# Altium schematic symbol library Common.SchLib: 211 symbols (part 1 of 2)
Pins are listed as number, name and electrical type; pins without a type are passive.

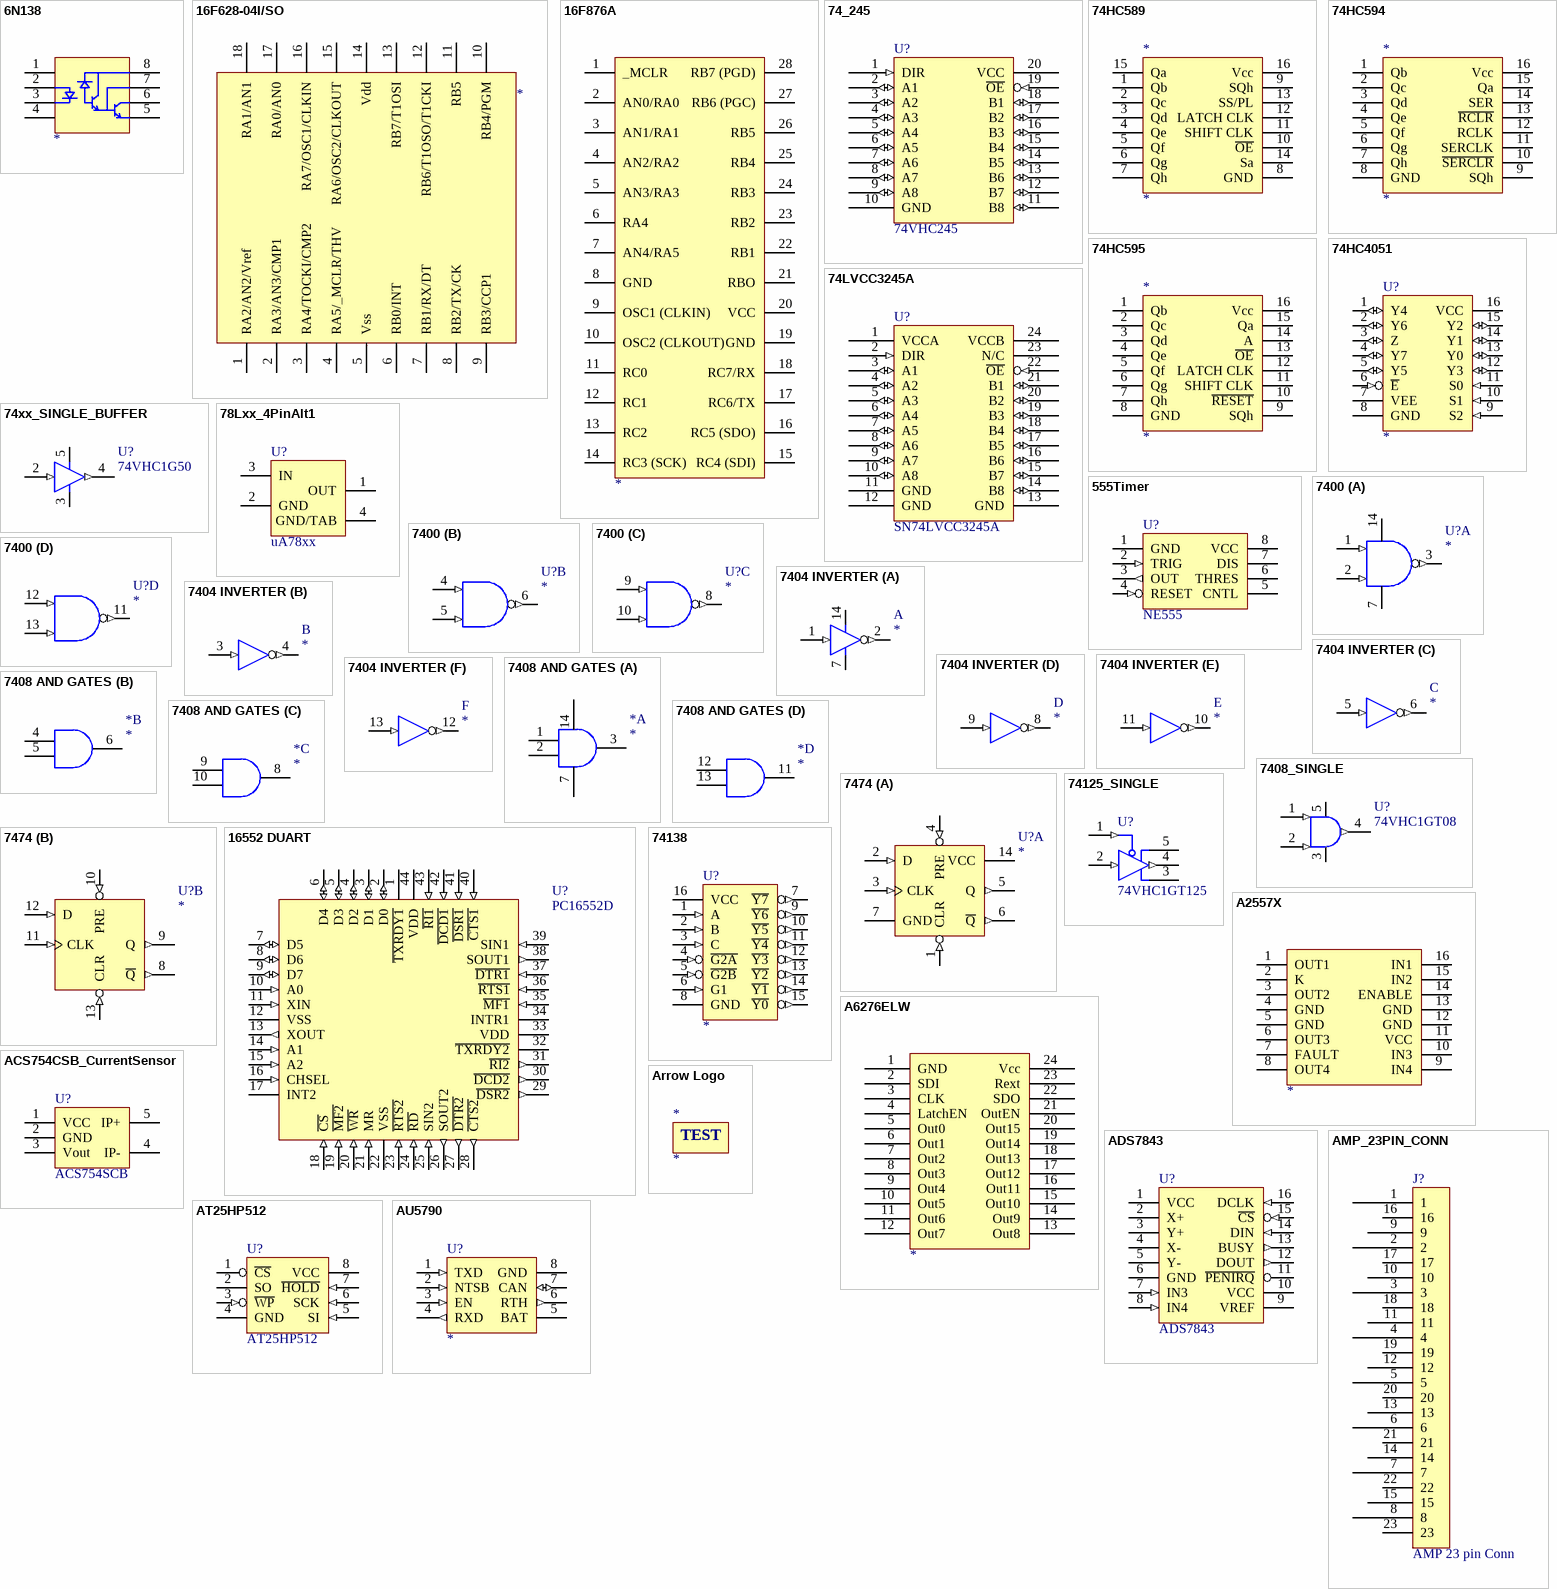
[diagram p0: symbols 6N138 to AU5790]

## 6N138
designator ?
pins: 1, 2, 3, 4, 5, 6, 7, 8

## 16F628-04I/SO
designator ?
pins: 1 RA2/AN2/Vref, 2 RA3/AN3/CMP1, 3 RA4/TOCKI/CMP2, 4 RA5/_MCLR/THV, 5 Vss, 6 RB0/INT, 7 RB1/RX/DT, 8 RB2/TX/CK, 9 RB3/CCP1, 10 RB4/PGM, 11 RB5, 12 RB6/T1OSO/T1CKI, 13 RB7/T1OSI, 14 Vdd, 15 RA6/OSC2/CLKOUT, 16 RA7/OSC1/CLKIN, 17 RA0/AN0, 18 RA1/AN1

## 16F876A
designator ?
pins: 1 _MCLR, 2 AN0/RA0, 3 AN1/RA1, 4 AN2/RA2, 5 AN3/RA3, 6 RA4, 7 AN4/RA5, 8 GND, 9 OSC1 (CLKIN), 10 OSC2 (CLKOUT), 11 RC0, 12 RC1, 13 RC2, 14 RC3 (SCK), 15 RC4 (SDI), 16 RC5 (SDO), 17 RC6/TX, 18 RC7/RX, 19 GND, 20 VCC, 21 RBO, 22 RB1, 23 RB2, 24 RB3, 25 RB4, 26 RB5, 27 RB6 (PGC), 28 RB7 (PGD)

## 74_245
designator U?, comment 74VHC245
Dual Supply Buffer; VALUE: 74VHC245; PARTNO: 74VHC245
footprint SO20 WIDE_030205 (SMT)
pins: 1 DIR (in), 2 A1 (io), 3 A2 (io), 4 A3 (io), 5 A4 (io), 6 A5 (io), 7 A6 (io), 8 A7 (io), 9 A8 (io), 10 GND (power), 11 B8 (io), 12 B7 (io), 13 B6 (io), 14 B5 (io), 15 B4 (io), 16 B3 (io), 17 B2 (io), 18 B1 (io), 19 ~{OE} (in), 20 VCC (power)

## 74HC589
designator *
pins: 1 Qb, 2 Qc, 3 Qd, 4 Qe, 5 Qf, 6 Qg, 7 Qh, 8 GND, 9 SQh, 10 ~{OE}, 11 SHIFT CLK, 12 LATCH CLK, 13 SS/PL, 14 Sa, 15 Qa, 16 Vcc

## 74HC594
designator *
pins: 1 Qb, 2 Qc, 3 Qd, 4 Qe, 5 Qf, 6 Qg, 7 Qh, 8 GND, 9 SQh, 10 ~{SERCLR}, 11 SERCLK, 12 RCLK, 13 ~{RCLR}, 14 SER, 15 Qa, 16 Vcc

## 74HC595
designator *
pins: 1 Qb, 2 Qc, 3 Qd, 4 Qe, 5 Qf, 6 Qg, 7 Qh, 8 GND, 9 SQh, 10 ~{RESET}, 11 SHIFT CLK, 12 LATCH CLK, 13 ~{OE}, 14 A, 15 Qa, 16 Vcc

## 74HC4051
designator U?
PARTNO: CHP-NEW00; VALUE: 74HC4061
footprint Model Name (Footprint not found)
pins: 1 Y4 (io), 2 Y6 (io), 3 Z (io), 4 Y7 (io), 5 Y5 (io), 6 ~{E} (in), 7 VEE (power), 8 GND (power), 9 S2 (in), 10 S1 (in), 11 S0 (in), 12 Y3 (io), 13 Y0 (io), 14 Y1 (io), 15 Y2 (io), 16 VCC (power)

## 74LVCC3245A
designator U?, comment SN74LVCC3245A
Dual Supply Buffer; VALUE: SN74LVCC3245A; PARTNO: SN74LVCC3245A
pins: 1 VCCA (power), 2 DIR (in), 3 A1 (io), 4 A2 (io), 5 A3 (io), 6 A4 (io), 7 A5 (io), 8 A6 (io), 9 A7 (io), 10 A8 (io), 11 GND (power), 12 GND (power), 13 GND (power), 14 B8 (io), 15 B7 (io), 16 B6 (io), 17 B5 (io), 18 B4 (io), 19 B3 (io), 20 B2 (io), 21 B1 (io), 22 ~{OE} (in), 23 N/C, 24 VCCB (power)

## 74xx_SINGLE_BUFFER
designator U?, comment 74VHC1G50
Single non-inverting buffer; PART NO: 74VHC1G50; VALUE: 74VHC1G50
pins: 2 INA (in), 3 GND (power), 4 OUTY (out), 5 VCC (power)

## 78Lxx_4PinAlt1
designator U?, comment uA78xx
PARTNO: uA78Lxx; VALUE: uA78xx; DK: ????
footprint SOT89_010406 (SMT)
pins: 1 OUT (power), 2 GND (power), 3 IN (power), 4 GND/TAB (power)

## 555Timer
designator U?, comment NE555
PARTNO: CHP-????; VALUE: NE555
pins: 1 GND (power), 2 TRIG (in), 3 OUT (out), 4 RESET (in), 5 CNTL, 6 THRES, 7 DIS (oc), 8 VCC (power)

## 7400
designator U?
footprint SO14
part A pins: 1 A (in), 2 B (in), 3 Y (out), 7 GND (power), 14 VCC (power)
part B pins: 4 A (in), 5 B (in), 6 Y (out)
part C pins: 8 Y (out), 9 A (in), 10 B (in)
part D pins: 11 Y (out), 12 A (in), 13 B (in)

## 7404 INVERTER
designator ?
part A pins: 1 IN (in), 2 OUT (out), 7 GND (power), 14 VCC (power)
part B pins: 3 IN (in), 4 OUT (out)
part C pins: 5 IN (in), 6 OUT (out)
part D pins: 8 OUT (out), 9 IN (in)
part E pins: 10 OUT (out), 11 IN (in)
part F pins: 12 OUT (out), 13 IN (in)

## 7408 AND GATES
designator *
part A pins: 1, 2, 3, 7 GND, 14 VCC
part B pins: 4 1, 5 2, 6 3
part C pins: 8 3, 9 1, 10 2
part D pins: 11 3, 12 1, 13 2

## 7408_SINGLE
designator U?, comment value 74VHC1GT08  (hidden comment: Single And Gate)
PART NO: NEW
footprint SOT23-5
pins: 1 INB (in), 2 INA (in), 3 GND (power), 4 OUTY (out), 5 VCC (power)

## 7474
designator U?
74xx74 Flip Flop
footprint SO14
footprint DIP14
part A pins: 1 CLR (in), 2 D (in), 3 CLK (in), 4 PRE (in), 5 Q (out), 6 ~{Q} (out), 7 GND (power), 14 VCC (power)
part B pins: 8 ~{Q} (out), 9 Q (out), 10 PRE (in), 11 CLK (in), 12 D (in), 13 CLR (in)

## 16552 DUART
designator U?, comment PC16552D
PARTNO: CHP-????; VALUE: PC16552D
pins: 1 ~{TXRDY1} (oc), 2 D0 (io), 3 D1 (io), 4 D2 (io), 5 D3 (io), 6 D4 (io), 7 D5 (io), 8 D6 (io), 9 D7 (io), 10 A0 (in), 11 XIN (in), 12 VSS (power), 13 XOUT (out), 14 A1 (in), 15 A2 (in), 16 CHSEL (in), 17 INT2 (oc), 18 ~{CS} (in), 19 ~{MF2} (in), 20 ~{WR} (in), 21 MR (in), 22 VSS (power), 23 ~{RTS2} (in), 24 ~{RD} (in), 25 SIN2 (in), 26 SOUT2 (out), 27 ~{DTR2} (out), 28 ~{CTS2} (out), 29 ~{DSR2} (out), 30 ~{DCD2} (out), 31 ~{RI2} (out), 32 ~{TXRDY2} (oc), 33 VDD (power), 34 INTR1 (oc), 35 ~{MF1} (in), 36 ~{RTS1} (in), 37 ~{DTR1} (in), 38 SOUT1 (out), 39 SIN1 (in), 40 ~{CTS1} (in), 41 ~{DSR1} (in), 42 ~{DCD1} (in), 43 ~{RI1} (in), 44 VDD (power)

## 74125_SINGLE
designator U?, comment 74VHC1GT125
Single Tir-state Buffer; PARTNO: 74VHC1GT125; VALUE: 74VHC1GT125
footprint SOT23-5
pins: 1 INB (in), 2 INA (in), 3 GND (power), 4 OUTY (out), 5 VCC (power)

## 74138
designator U?
footprint TSSOP16
pins: 1 A (in), 2 B (in), 3 C (in), 4 ~{G2A} (in), 5 ~{G2B} (in), 6 G1 (in), 7 ~{Y7} (out), 8 GND (power), 9 ~{Y6} (out), 10 ~{Y5} (out), 11 ~{Y4} (out), 12 ~{Y3} (out), 13 ~{Y2} (out), 14 ~{Y1} (out), 15 ~{Y0} (out), 16 VCC (power)

## A2557X
designator ?
pins: 1 OUT1, 2 K, 3 OUT2, 4 GND, 5 GND, 6 OUT3, 7 FAULT, 8 OUT4, 9 IN4, 10 IN3, 11 VCC, 12 GND, 13 GND, 14 ENABLE, 15 IN2, 16 IN1

## A6276ELW
designator ?
pins: 1 GND, 2 SDI, 3 CLK, 4 LatchEN, 5 Out0, 6 Out1, 7 Out2, 8 Out3, 9 Out4, 10 Out5, 11 Out6, 12 Out7, 13 Out8, 14 Out9, 15 Out10, 16 Out11, 17 Out12, 18 Out13, 19 Out14, 20 Out15, 21 OutEN, 22 SDO, 23 Rext, 24 Vcc

## ACS754CSB_CurrentSensor
designator U?, comment ACS754SCB
Allegro Current Sensor; PARTNO: ACS754SCB-050-PFF; VALUE: ACS754SCB
footprint ACS_CURRENT_SENSOR_051507 (Footprint not found)
pins: 1 VCC (power) "V+", 2 GND (power), 3 Vout "AnalogOutput", 4 IP- "CurrentSenseLow", 5 IP+ "CurrentSenseHigh"

## ADS7843
designator U?
Touch Screen Controller; VALUE: ADS7843; PARNTO: ADS7843
pins: 1 VCC (power), 2 X+, 3 Y+, 4 X-, 5 Y-, 6 GND (power), 7 IN3 (in), 8 IN4 (in), 9 VREF (power), 10 VCC (power), 11 ~{PENIRQ} (oc), 12 DOUT (out), 13 BUSY (out), 14 DIN (in), 15 ~{CS} (in), 16 DCLK (in)

## AMP_23PIN_CONN
designator J?, comment AMP 23 pin Conn
PARTNO: AMP 23 pin Conn; VALUE: AMP 23 pin Conn
pins: 1, 2, 3, 4, 5, 6, 7, 8, 9, 10, 11, 12, 13, 14, 15, 16, 17, 18, 19, 20, 21, 22, 23

## Arrow Logo
designator *
text: TEST

## AT25HP512
designator U?
PARTNO: CHP-????; VALUE: AT25HP512
footprint SO8_012105 (SMT)
pins: 1 ~{CS}, 2 SO (oc), 3 ~{WP} (in), 4 GND (power), 5 SI (in), 6 SCK (in), 7 ~{HOLD} (in), 8 VCC (power)

## AU5790
designator U?
footprint SO8
pins: 1 TXD (in), 2 NTSB (in), 3 EN (in), 4 RXD (out), 5 BAT (oc), 6 RTH (out), 7 CAN (io), 8 GND (power)

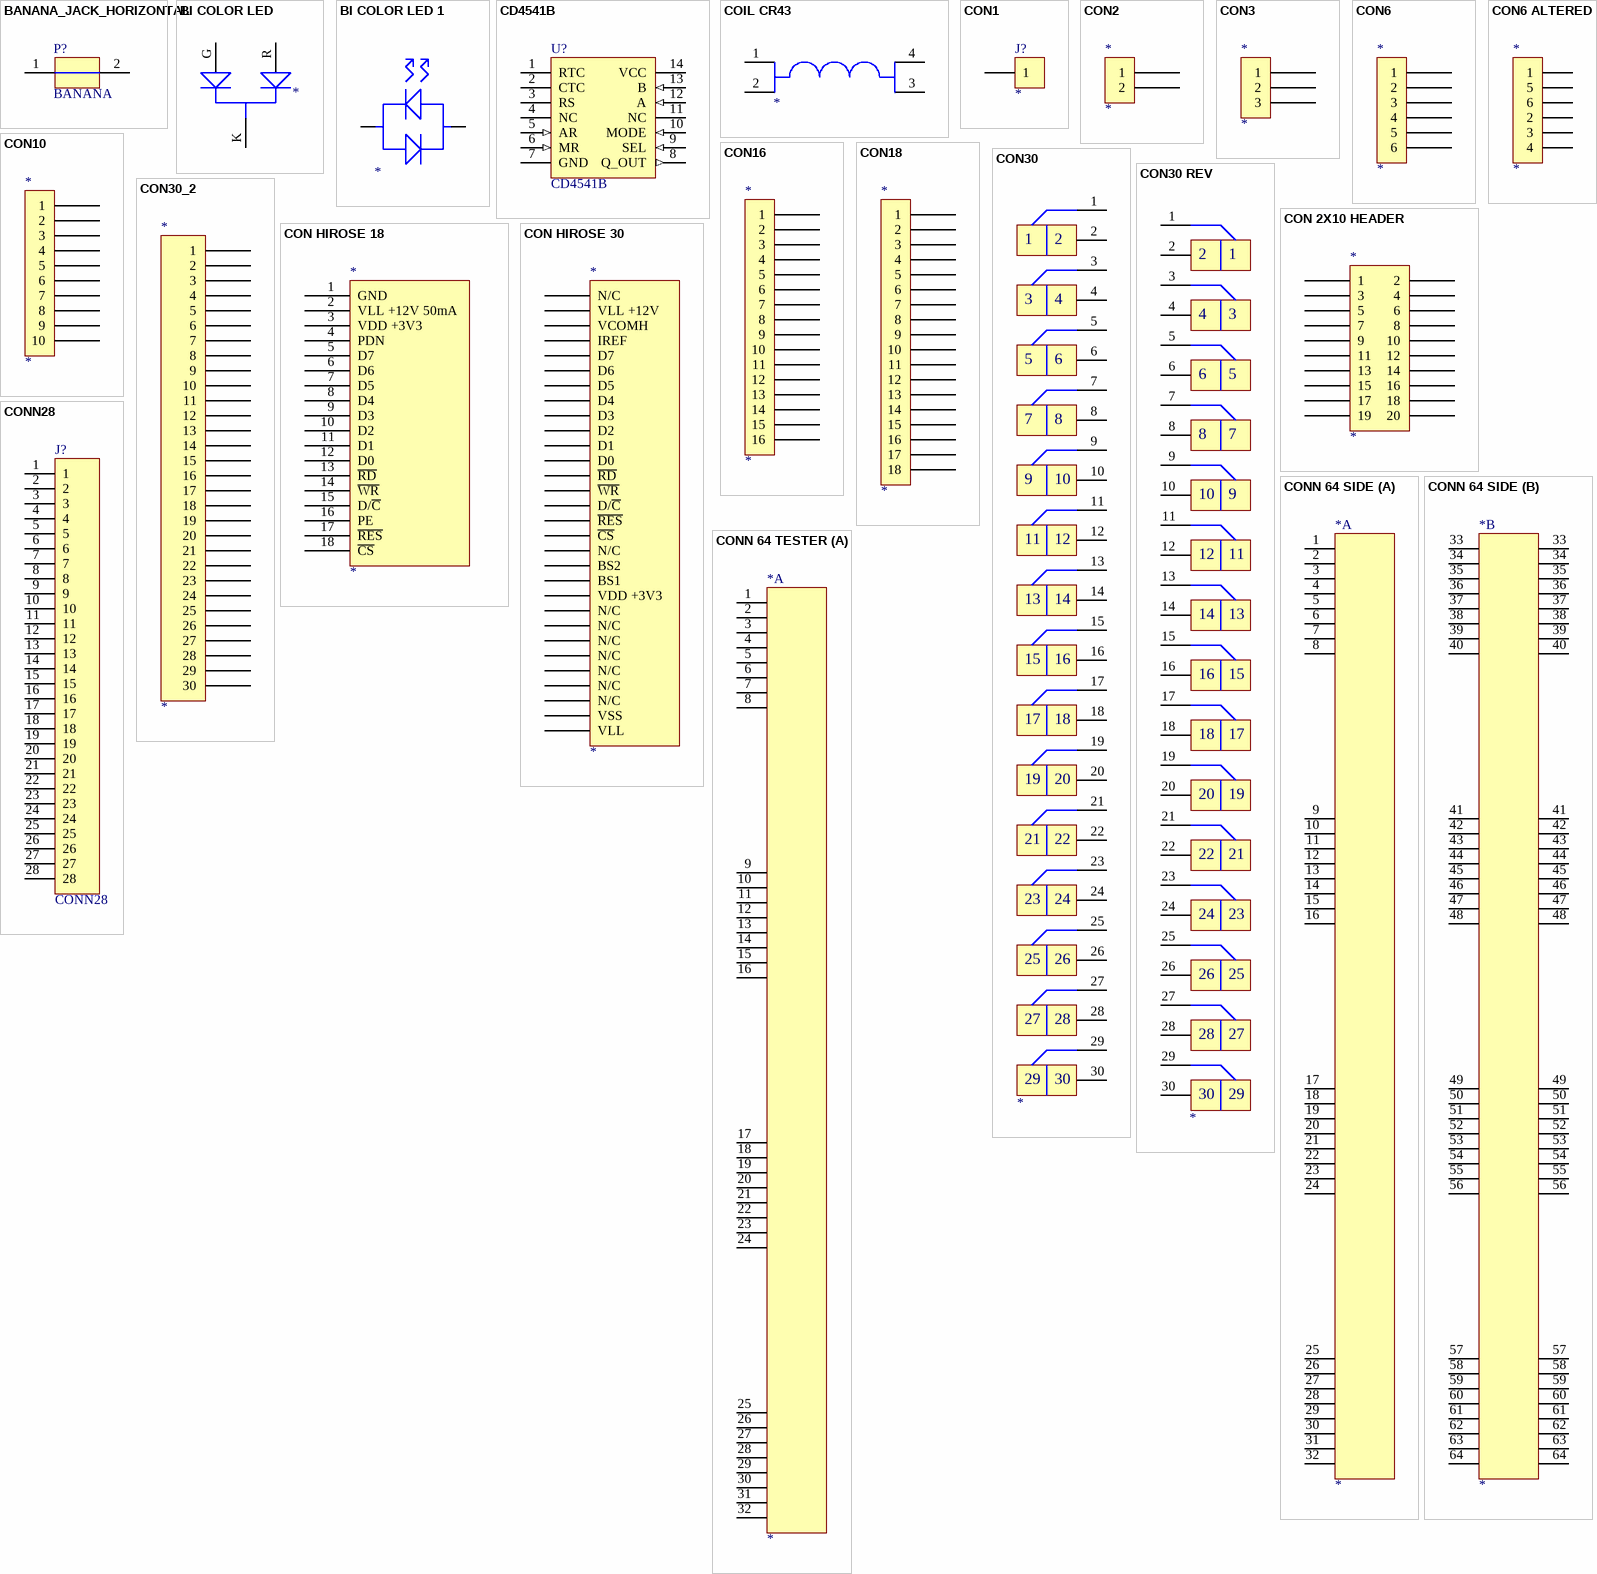
[diagram p1: symbols BANANA_JACK_HORIZONTAL to CONN 64 TESTER]

## BANANA_JACK_HORIZONTAL
designator P?, comment BANANA
PARTNO: Keystone 6061; VALUE: BANANA
footprint BananaHorTestJack (TH)
pins: 1 "PAD1", 2 "PAD2"

## BI COLOR LED
designator ?
pins: G, K, R

## BI COLOR LED 1
designator ?
pins: 1, 2

## CD4541B
designator U?
VALUE: CD4541B; PARTNO: CD4541B
footprint SO14 (Footprint not found)
pins: 1 RTC, 2 CTC, 3 RS, 4 NC, 5 AR (in), 6 MR (in), 7 GND (power), 8 Q_OUT (out), 9 SEL (in), 10 MODE (in), 11 NC, 12 A (in), 13 B (in), 14 VCC (power)

## COIL CR43
designator ?
pins: 1, 2, 3, 4

## CON1
designator J?
Connector
pins: 1

## CON2
designator *
pins: 1, 2

## CON3
designator *
pins: 1, 2, 3

## CON6
designator *
pins: 1, 2, 3, 4, 5, 6

## CON6 ALTERED
designator *
pins: 1, 2, 3, 4, 5, 6

## CON10
designator *
pins: 1, 2, 3, 4, 5, 6, 7, 8, 9, 10

## CON16
designator *
pins: 1, 2, 3, 4, 5, 6, 7, 8, 9, 10, 11, 12, 13, 14, 15, 16

## CON18
designator *
pins: 1, 2, 3, 4, 5, 6, 7, 8, 9, 10, 11, 12, 13, 14, 15, 16, 17, 18

## CON30
designator ?
pins: 1, 2, 3, 4, 5, 6, 7, 8, 9, 10, 11, 12, 13, 14, 15, 16, 17, 18, 19, 20, 21, 22, 23, 24, 25, 26, 27, 28, 29, 30

## CON30 REV
designator ?
pins: 1, 2, 3, 4, 5, 6, 7, 8, 9, 10, 11, 12, 13, 14, 15, 16, 17, 18, 19, 20, 21, 22, 23, 24, 25, 26, 27, 28, 29, 30

## CON30_2
designator *
pins: 1, 2, 3, 4, 5, 6, 7, 8, 9, 10, 11, 12, 13, 14, 15, 16, 17, 18, 19, 20, 21, 22, 23, 24, 25, 26, 27, 28, 29, 30

## CON 2X10 HEADER
designator *
pins: 1, 2, 3, 4, 5, 6, 7, 8, 9, 10, 11, 12, 13, 14, 15, 16, 17, 18, 19, 20

## CON HIROSE 18
designator *
pins: 1 GND, 2 VLL +12V 50mA, 3 VDD +3V3, 4 PDN, 5 D7, 6 D6, 7 D5, 8 D4, 9 D3, 10 D2, 11 D1, 12 D0, 13 ~{RD}, 14 ~{WR}, 15 D/~{C}, 16 PE, 17 ~{RES}, 18 ~{CS}

## CON HIROSE 30
designator *
pins: 1 N/C, 2 VLL +12V, 3 VCOMH, 4 IREF, 5 D7, 6 D6, 7 D5, 8 D4, 9 D3, 10 D2, 11 D1, 12 D0, 13 ~{RD}, 14 ~{WR}, 15 D/~{C}, 16 ~{RES}, 17 ~{CS}, 18 N/C, 19 BS2, 20 BS1, 21 VDD +3V3, 22 N/C, 23 N/C, 24 N/C, 25 N/C, 26 N/C, 27 N/C, 28 N/C, 29 VSS, 30 VLL

## CONN28
designator J?
PARTNO: CONN28; VALUE: CONN28
pins: 1, 2, 3, 4, 5, 6, 7, 8, 9, 10, 11, 12, 13, 14, 15, 16, 17, 18, 19, 20, 21, 22, 23, 24, 25, 26, 27, 28

## CONN 64 SIDE
designator *
part A pins: 1, 2, 3, 4, 5, 6, 7, 8, 9, 10, 11, 12, 13, 14, 15, 16, 17, 18, 19, 20, 21, 22, 23, 24, 25, 26, 27, 28, 29, 30, 31, 32
part B pins: 33, 33, 34, 34, 35, 35, 36, 36, 37, 37, 38, 38, 39, 39, 40, 40, 41, 41, 42, 42, 43, 43, 44, 44, 45, 45, 46, 46, 47, 47, 48, 48, 49, 49, 50, 50, 51, 51, 52, 52, 53, 53, 54, 54, 55, 55, 56, 56, 57, 57, 58, 58, 59, 59, 60, 60, 61, 61, 62, 62, 63, 63, 64, 64

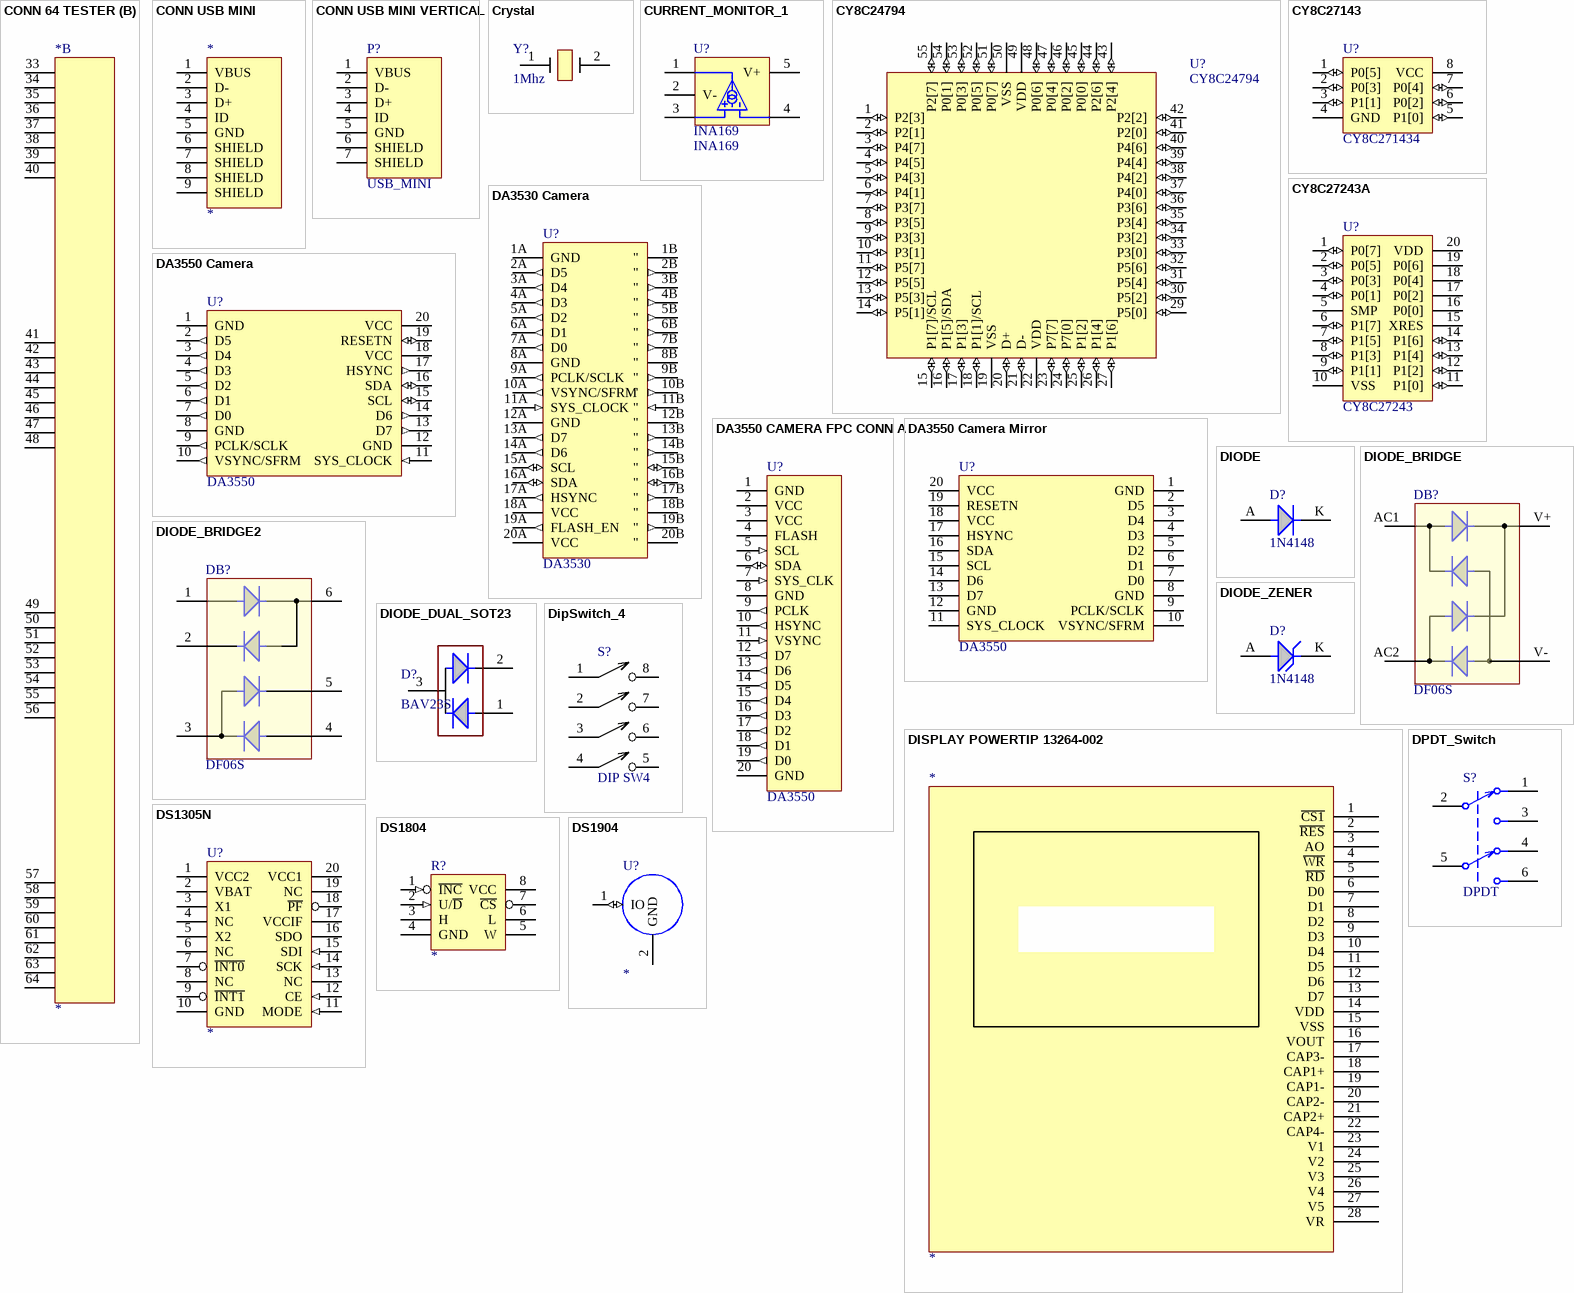
[diagram p2: symbols CONN 64 TESTER to DS1904]

## CONN 64 TESTER
designator *
part A pins: 1, 2, 3, 4, 5, 6, 7, 8, 9, 10, 11, 12, 13, 14, 15, 16, 17, 18, 19, 20, 21, 22, 23, 24, 25, 26, 27, 28, 29, 30, 31, 32
part B pins: 33, 34, 35, 36, 37, 38, 39, 40, 41, 42, 43, 44, 45, 46, 47, 48, 49, 50, 51, 52, 53, 54, 55, 56, 57, 58, 59, 60, 61, 62, 63, 64

## CONN USB MINI
designator *
pins: 1 VBUS, 2 D-, 3 D+, 4 ID, 5 GND, 6 SHIELD, 7 SHIELD, 8 SHIELD, 9 SHIELD

## CONN USB MINI VERTICAL
designator P?, comment USB_MINI
PARTNUM: USB_MINI; VALUE: USB_MINI
footprint USB_VERTICAL_MINI_JACK_102007 (TH)
pins: 1 VBUS, 2 D-, 3 D+, 4 ID, 5 GND, 6 SHIELD, 7 SHIELD

## Crystal
designator Y?, comment 1Mhz
VALUE: 1Mhz; PARTNO: 1Mhz; DK: ????
footprint SMT CRYSTAL_012105 (SMT)
pins: 1 "Port", 2 "Port"

## CURRENT_MONITOR_1
designator U?, comment INA169
PART NO: NEW; VALUE: INA169
footprint SOT23-5
pins: 1, 2 V- (power), 3, 4, 5 V+ (power)

## CY8C24794
designator U?
PARTNO: CHP-????; VALUE: CY8C24794
pins: 1 P2[3] (io), 2 P2[1] (io), 3 P4[7] (io), 4 P4[5] (io), 5 P4[3] (io), 6 P4[1] (io), 7 P3[7] (io), 8 P3[5] (io), 9 P3[3] (io), 10 P3[1] (io), 11 P5[7] (io), 12 P5[5] (io), 13 P5[3] (io), 14 P5[1] (io), 15 P1[7]/SCL (io), 16 P1[5]/SDA (io), 17 P1[3] (io), 18 P1[1]/SCL (io), 19 VSS (power), 20 D+ (io), 21 D- (io), 22 VDD (power), 23 P7[7] (io), 24 P7[0] (io), 25 P1[2] (io), 26 P1[4] (io), 27 P1[6] (io), 29 P5[0] (io), 30 P5[2] (io), 31 P5[4] (io), 32 P5[6] (io), 33 P3[0] (io), 34 P3[2] (io), 35 P3[4] (io), 36 P3[6] (io), 37 P4[0] (io), 38 P4[2] (io), 39 P4[4] (io), 40 P4[6] (io), 41 P2[0] (io), 42 P2[2] (io), 43 P2[4] (io), 44 P2[6] (io), 45 P0[0] (io), 46 P0[2] (io), 47 P0[4] (io), 48 P0[6] (io), 49 VDD (power), 50 VSS (power), 51 P0[7] (io), 52 P0[5] (io), 53 P0[3] (io), 54 P0[1] (io), 55 P2[7] (io)

## CY8C27143
designator U?  value CY8C271434  (hidden comment: CY8C27143)
PART NO: CHP-1176
pins: 1 P0[5] (io), 2 P0[3] (io), 3 P1[1] (io), 4 GND (power), 5 P1[0] (io), 6 P0[2] (io), 7 P0[4] (io), 8 VCC (power)

## CY8C27243A
designator U?, comment CY8C27243
PART NO: CY8C27243; VALUE: CY8C27243
footprint TSSOP20
footprint SO20
pins: 1 P0[7] (io), 2 P0[5] (io), 3 P0[3] (io), 4 P0[1] (io), 5 SMP, 6 P1[7] (io), 7 P1[5] (io), 8 P1[3] (io), 9 P1[1] (io), 10 VSS (power), 11 P1[0] (io), 12 P1[2] (io), 13 P1[4] (io), 14 P1[6] (io), 15 XRES, 16 P0[0], 17 P0[2], 18 P0[4], 19 P0[6], 20 VDD (power)

## DA3530 Camera
designator U?, comment DA3530
VALUE: DA3530; PARTNO: DA3530
pins: 1A GND (power), 1B " (power), 2A D5 (out), 2B " (out), 3A D4 (out), 3B " (out), 4A D3 (out), 4B " (out), 5A D2 (out), 5B " (out), 6A D1 (out), 6B " (out), 7A D0 (out), 7B " (out), 8A GND (power), 8B " (power), 9A PCLK/SCLK (out), 9B " (out), 10A VSYNC/SFRM (out), 10B " (out), 11A SYS_CLOCK (in), 11B " (in), 12A GND (power), 12B " (power), 13A D7 (out), 13B " (out), 14A D6 (out), 14B " (out), 15A SCL (io), 15B " (io), 16A SDA (io), 16B " (io), 17A HSYNC (out), 17B " (out), 18A VCC (power), 18B " (power), 19A FLASH_EN (out), 19B " (out), 20A VCC (power), 20B " (power)

## DA3550 Camera
designator U?, comment DA3550
PARTNO: DA3550; VALUE: DA3550
pins: 1 GND (power), 2 D5 (out), 3 D4 (out), 4 D3 (out), 5 D2 (out), 6 D1 (out), 7 D0 (out), 8 GND (power), 9 PCLK/SCLK (out), 10 VSYNC/SFRM (out), 11 SYS_CLOCK (in), 12 GND (power), 13 D7 (out), 14 D6 (out), 15 SCL (io), 16 SDA (io), 17 HSYNC (out), 18 VCC (power), 19 RESETN (io), 20 VCC (power)

## DA3550 CAMERA FPC CONN A
designator U?, comment DA3550
PARTNO: DA3550; VALUE: DA3550
footprint FPC20_0.5 (Footprint not found)
pins: 1 GND (power), 2 VCC (power), 3 VCC (power), 4 FLASH, 5 SCL (in), 6 SDA (io), 7 SYS_CLK (in), 8 GND (power), 9 PCLK (out), 10 HSYNC (out), 11 VSYNC (in), 12 D7 (out), 13 D6 (out), 14 D5 (out), 15 D4 (out), 16 D3 (out), 17 D2 (out), 18 D1 (out), 19 D0 (out), 20 GND (power)

## DA3550 Camera Mirror
designator U?, comment DA3550
PARTNO: DA3550; VALUE: DA3550
pins: 1 GND (power), 2 D5, 3 D4, 4 D3, 5 D2, 6 D1, 7 D0, 8 GND (power), 9 PCLK/SCLK, 10 VSYNC/SFRM, 11 SYS_CLOCK, 12 GND (power), 13 D7, 14 D6, 15 SCL, 16 SDA, 17 HSYNC, 18 VCC (power), 19 RESETN, 20 VCC (power)

## DIODE
designator D?, comment 1N4148
VALUE: 1N4148; PARTNO: ?
pins: A, K

## DIODE_BRIDGE
designator DB?, comment DF06S
VALUE: DF06S; PARTNO: DF06S
footprint DIODE_BRIDGE_092807 (Footprint not found)
pins: AC1 AC, AC2, V+ +, V- -

## DIODE_BRIDGE2
designator DB?, comment DF06S
VALUE: DF06S; PARTNO: DF06S
footprint DIODE_BRIDGE (Footprint not found)
pins: 1 A1, 2 K1, 3 AC2, 4 A2, 5 K2, 6 AC1

## DIODE_DUAL_SOT23
designator D?, comment BAV23S
MAN: Fairchild; PARTNO: BAV23S; VALUE: BAV23S; DK: BAV23SFSCT-ND
footprint SOT23_012105 (SMT)
pins: 1, 2, 3

## DIODE_ZENER
designator D?, comment 1N4148
VALUE: 1N4148; PARTNO: ?
pins: A, K

## DipSwitch_4
designator S?, comment DIP SW4
PARTNO: DIP SW4; VALUE: DIP SW4
footprint DIP 8_012705 (TH)
pins: 1, 2, 3, 4, 5, 6, 7, 8

## DISPLAY POWERTIP 13264-002
designator *
pins: 1 ~{CS1}, 2 ~{RES}, 3 AO, 4 ~{WR}, 5 ~{RD}, 6 D0, 7 D1, 8 D2, 9 D3, 10 D4, 11 D5, 12 D6, 13 D7, 14 VDD, 15 VSS, 16 VOUT, 17 CAP3-, 18 CAP1+, 19 CAP1-, 20 CAP2-, 21 CAP2+, 22 CAP4-, 23 V1, 24 V2, 25 V3, 26 V4, 27 V5, 28 VR
text: DISPLAY

## DPDT_Switch
designator S?, comment DPDT
PARTNO: M2022; VALUE: DPDT
footprint M2022_DPDT_121306 (Footprint not found)
pins: 1 NC, 2 COMB, 3 NO, 4 NC, 5 COMB, 6 NO

## DS1305N
designator U?
footprint TSSOP20
pins: 1 VCC2 (power), 2 VBAT (power), 3 X1, 4 NC, 5 X2, 6 NC, 7 ~{INT0} (oc), 8 NC, 9 ~{INT1} (oc), 10 GND (power), 11 MODE (in), 12 CE (in), 13 NC, 14 SCK (in), 15 SDI (in), 16 SDO (hiz), 17 VCCIF (power), 18 ~{PF} (oc), 19 NC, 20 VCC1 (power)

## DS1804
designator R?
footprint SO8
pins: 1 ~{INC} (in), 2 U/~{D} (in), 3 H, 4 GND (power), 5 W, 6 L, 7 ~{CS}, 8 VCC (power)

## DS1904
designator U?
footprint IBUTTON
pins: 1 IO (io), 2 GND (power)

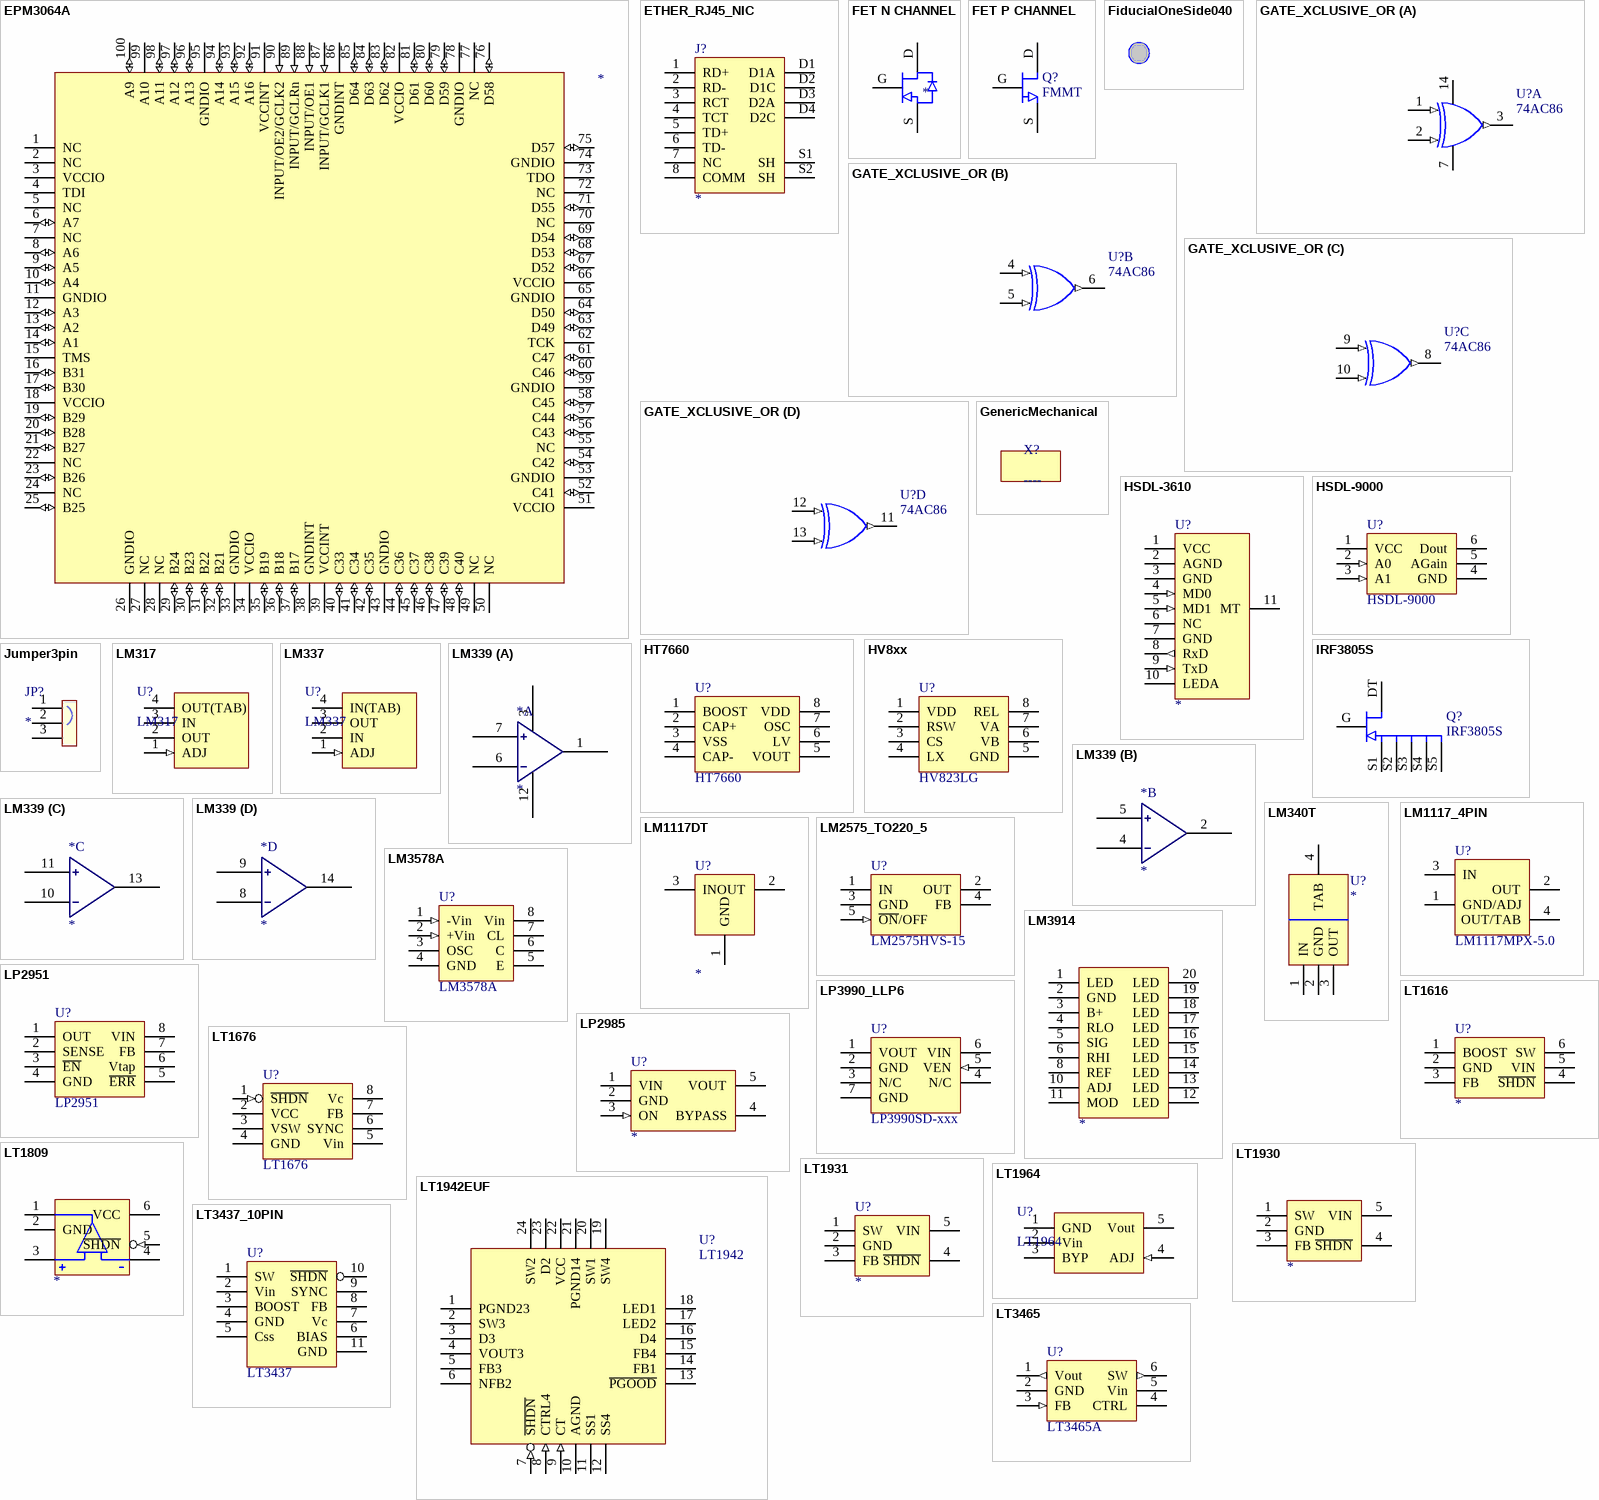
[diagram p3: symbols EPM3064A to LT3465]

## EPM3064A
designator ?
pins: 1 NC, 2 NC, 3 VCCIO (power), 4 TDI, 5 NC, 6 A7 (io), 7 NC, 8 A6 (io), 9 A5 (io), 10 A4 (io), 11 GNDIO (power), 12 A3 (io), 13 A2 (io), 14 A1 (io), 15 TMS, 16 B31 (io), 17 B30 (io), 18 VCCIO (power), 19 B29 (io), 20 B28 (io), 21 B27 (io), 22 NC, 23 B26 (io), 24 NC, 25 B25 (io), 26 GNDIO (power), 27 NC, 28 NC, 29 B24 (io), 30 B23 (io), 31 B22 (io), 32 B21 (io), 33 GNDIO (power), 34 VCCIO (power), 35 B19 (io), 36 B18 (io), 37 B17 (io), 38 GNDINT (power), 39 VCCINT (power), 40 C33 (io), 41 C34 (io), 42 C35 (io), 43 GNDIO (power), 44 C36 (io), 45 C37 (io), 46 C38 (io), 47 C39 (io), 48 C40 (io), 49 NC, 50 NC, 51 VCCIO (power), 52 C41 (io), 53 GNDIO, 54 C42 (io), 55 NC, 56 C43 (io), 57 C44 (io), 58 C45 (io), 59 GNDIO (power), 60 C46 (io), 61 C47 (io), 62 TCK, 63 D49 (io), 64 D50 (io), 65 GNDIO (power), 66 VCCIO (power), 67 D52 (io), 68 D53 (io), 69 D54 (io), 70 NC, 71 D55 (io), 72 NC, 73 TDO, 74 GNDIO (power), 75 D57 (io), 76 D58 (io), 77 NC, 78 GNDIO (power), 79 D59 (io), 80 D60 (io), 81 D61 (io), 82 VCCIO (power), 83 D62 (io), 84 D63 (io), 85 D64 (io), 86 GNDINT (power), 87 INPUT/GCLK1 (in), 88 INPUT/OE1 (in), 89 INPUT/GCLRn (in), 90 INPUT/OE2/GCLK2 (in), 91 VCCINT (power), 92 A16 (io), 93 A15 (io), 94 A14 (io), 95 GNDIO (power), 96 A13 (io), 97 A12 (io), 98 A11 (io), 99 A10, 100 A9 (io)

## ETHER_RJ45_NIC
designator J?
pins: 1 RD+, 2 RD-, 3 RCT, 4 TCT, 5 TD+, 6 TD-, 7 NC, 8 COMM (power), D1 D1A, D2 D1C, D3 D2A, D4 D2C, S1 SH, S2 SH

## FET N CHANNEL
designator ?
pins: D, G, S

## FET P CHANNEL
designator Q?, comment FMMT
PARTNO: FMMT; VALUE: FMMT
pins: D, G, S

## FiducialOneSide040
designator FID?  (value not drawn)
PARTNO: N/A; VALUE: N/A
footprint FiducialOneSide_011905 (FEATURE SMT PCB)
pins: 0

## GATE_XCLUSIVE_OR
designator U?, comment value 74AC86  (hidden comment: XOR)
part A pins: 1 1A (in), 2 1B (in), 3 1Y (out), 7 GND (power), 14 VCC (power)
part B pins: 4 1A (in), 5 1B (in), 6 1Y (out)
part C pins: 8 1Y (out), 9 1A (in), 10 1B (in)
part D pins: 11 1Y (out), 12 1A (in), 13 1B (in)

## GenericMechanical
designator X?, comment ----
proto_vendor_item_number: ----; proto_manufacturer_item_number: ----; proto_vendor: ----; proto_manufacturer: ----; value: ----

## HSDL-3610
designator U?
footprint HSDL_FRONT
pins: 1 VCC (power), 2 AGND (power), 3 GND (power), 4 MD0 (in), 5 MD1 (in), 6 NC, 7 GND (power), 8 RxD (out), 9 TxD (in), 10 LEDA, 11 MT

## HSDL-9000
designator U?
PARTNO: CHP-HSDL-9000; VALUE: HSDL-9000
pins: 1 VCC (power), 2 A0 (in), 3 A1 (in), 4 GND (power), 5 AGain, 6 Dout (hiz)

## HT7660
designator U?
PARTNO: CHP-????; VALUE: HT7660
footprint SO8_012105 (SMT)
pins: 1 BOOST, 2 CAP+, 3 VSS (power), 4 CAP-, 5 VOUT (power), 6 LV, 7 OSC, 8 VDD (power)

## HV8xx
designator U?, comment value HV823LG  (hidden comment: EL Lamp Driver)
PART NO: NEW
footprint SO8
pins: 1 VDD (power), 2 RSW, 3 CS, 4 LX, 5 GND (power), 6 VB, 7 VA, 8 REL

## IRF3805S
designator Q?
Power N channel FET; VALUE: IRF3805S; PARTNO: IRF3805S
pins: DT "Tab Drain", G, S1 "Source pin1", S2 "Source pin2", S3 "Source pin3", S4 "Source pin4", S5 "Source pin5"

## Jumper3pin
designator JP?
VALUE: JUMPER
pins: 1, 2, 3

## LM317
designator U?
PARTNO: LM317MKVURG3; VALUE: LM317; DK: 296-19495-1-ND
footprint TO263 REGULATOR_070808 (Footprint not found)
pins: 1 ADJ (in) "Vadjust", 2 OUT (power) "Vout", 3 IN (power) "Vin", 4 OUT(TAB) (power) "Vout"

## LM337
designator U?
PARTNO: LM337KTPR; VALUE: LM337; DK: 296-17847-1-ND
footprint TO263 REGULATOR_070808 (Footprint not found)
pins: 1 ADJ (in) "Vadjust", 2 IN (power) "Vout", 3 OUT (power) "Vin", 4 IN(TAB) (power) "Vout"

## LM339
designator *
part A pins: 1, 3 VCC, 6, 7, 12 GND
part B pins: 2, 4, 5
part C pins: 10, 11, 13
part D pins: 8, 9, 14

## LM340T
designator U?
footprint TO220
pins: 1 IN (power), 2 GND, 3 OUT, 4 TAB

## LM1117_4PIN
designator U?, comment LM1117MPX-5.0
PARTNO: LM1117MPX-5.0; VALUE: LM1117MPX-5.0
footprint SOT223 REG_011905 (SMT)
pins: 1 GND/ADJ (power), 2 OUT (power), 3 IN (power), 4 OUT/TAB (power)

## LM1117DT
designator U?
footprint TO252
pins: 1 GND (power), 2 OUT (power), 3 IN (power)

## LM2575_TO220_5
designator U?, comment LM2575HVS-15
PARTNO: LM2575HVS-15; VALUE: LM2575HVS-15
footprint TO263-5 (Footprint not found)
pins: 1 IN (power), 2 OUT (power), 3 GND (power), 4 FB (power), 5 ~{ON}/OFF (in)

## LM3578A
designator U?
PARTNO: LM3578A; VALUE: LM3578A
footprint SO8_030205 (SMT)
pins: 1 -Vin (in) "AmpIn-", 2 +Vin (in) "AmpIn+", 3 OSC "Oscillator", 4 GND (power), 5 E "DriveEmitter", 6 C "DriveCollector", 7 CL "CurrentLimit", 8 Vin (power) "InputVoltage"

## LM3914
designator ?
pins: 1 LED, 2 GND, 3 B+, 4 RLO, 5 SIG, 6 RHI, 8 REF, 10 ADJ, 11 MOD, 12 LED, 13 LED, 14 LED, 15 LED, 16 LED, 17 LED, 18 LED, 19 LED, 20 LED

## LP2951
designator U?
LDO Regulator; VALUE: LP2951; PARTNO: *
footprint SO8_030205 (SMT)
pins: 1 OUT (power) "Vout", 2 SENSE "Vsense", 3 ~{EN} "EnableN", 4 GND (power), 5 ~{ERR} (oc) "Error", 6 Vtap (oc) "Vref Tap", 7 FB "Feedback", 8 VIN (power) "Vin"

## LP2985
designator U?
footprint SOT23-5
pins: 1 VIN (power), 2 GND (power), 3 ON (in), 4 BYPASS, 5 VOUT (power)

## LP3990_LLP6
designator U?, comment LP3990SD-xxx
PARTNO: LP3990SD-xxx; VALUE: LP3990SD-xxx
footprint LLP6 (Footprint not found)
pins: 1 VOUT (power), 2 GND (power), 3 N/C, 4 N/C, 5 VEN (in), 6 VIN (power), 7 GND (power)

## LT1616
designator U?
footprint SOT23-6
pins: 1 BOOST (oc), 2 GND (power), 3 FB, 4 ~{SHDN}, 5 VIN (power), 6 SW (oc)

## LT1676
designator U?
PARTNO: LT1676CS8; VALUE: LT1676
footprint SO8_030205 (SMT)
pins: 1 ~{SHDN} (in) "Shut Down", 2 VCC (power) "Vin", 3 VSW (oc) "Switch", 4 GND (power) "Ground", 5 Vin (power) "Input Voltage", 6 SYNC "Sync Input", 7 FB "Feedback", 8 Vc "Control Voltage"

## LT1809
designator ?
pins: 1, 2 GND (power), 3, 4, 5 ~{SHDN} (in), 6 VCC (power)

## LT1930
designator ?
pins: 1 SW (oc), 2 GND (power), 3 FB, 4 ~{SHDN}, 5 VIN (power)

## LT1931
designator U?
footprint SOT23-5
pins: 1 SW (oc), 2 GND (power), 3 FB, 4 ~{SHDN}, 5 VIN (power)

## LT1942EUF
designator U?, comment LT1942
PARTNO: LT1942EUF; VALUE: LT1942
footprint QFN24 (Footprint not found)
pins: 1 PGND23 (power), 2 SW3 (oc), 3 D3, 4 VOUT3 (power), 5 FB3, 6 NFB2, 7 ~{SHDN} (in), 8 CTRL4 (in), 9 CT (in), 10 AGND (power), 11 SS1, 12 SS4, 13 ~{PGOOD} (oc), 14 FB1, 15 FB4, 16 D4, 17 LED2 (oc), 18 LED1 (oc), 19 SW4 (oc), 20 SW1 (oc), 21 PGND14 (power), 22 VCC (power), 23 D2, 24 SW2 (oc)

## LT1964
designator U?
LDO Regulator; PARTNO: LT1964ES5-BYP; VALUE: LT1964; DK: LT1964ES5-BYP#TRMPBFCT-ND
footprint SOT25_030205 (SMT)
pins: 1 GND (power), 2 Vin (power), 3 BYP "Bypass", 4 ADJ (in) "VoltageSet", 5 Vout (power) "Output"

## LT3437_10PIN
designator U?, comment LT3437
PARTNO: LT3437; VALUE: LT3437
footprint DFN10 (Footprint not found)
pins: 1 SW "Switch", 2 Vin (power) "InputVoltage", 3 BOOST "DriveBoost", 4 GND (power) "Ground", 5 Css "StartUpDelay", 6 BIAS "BiasVoltage", 7 Vc "ErrorAmpOut", 8 FB "FeedBack", 9 SYNC "SyncIn", 10 ~{SHDN} "ShutDown", 11 GND (power) "CenterPad"

## LT3465
designator U?, comment LT3465A
Stepup LED driver; PARTNO: CHP-LT3465AES; VALUE: LT3465A
footprint SOT23-6_030205 (SMT)
pins: 1 Vout (out), 2 GND (power), 3 FB (in), 4 CTRL, 5 Vin (power), 6 SW (out)

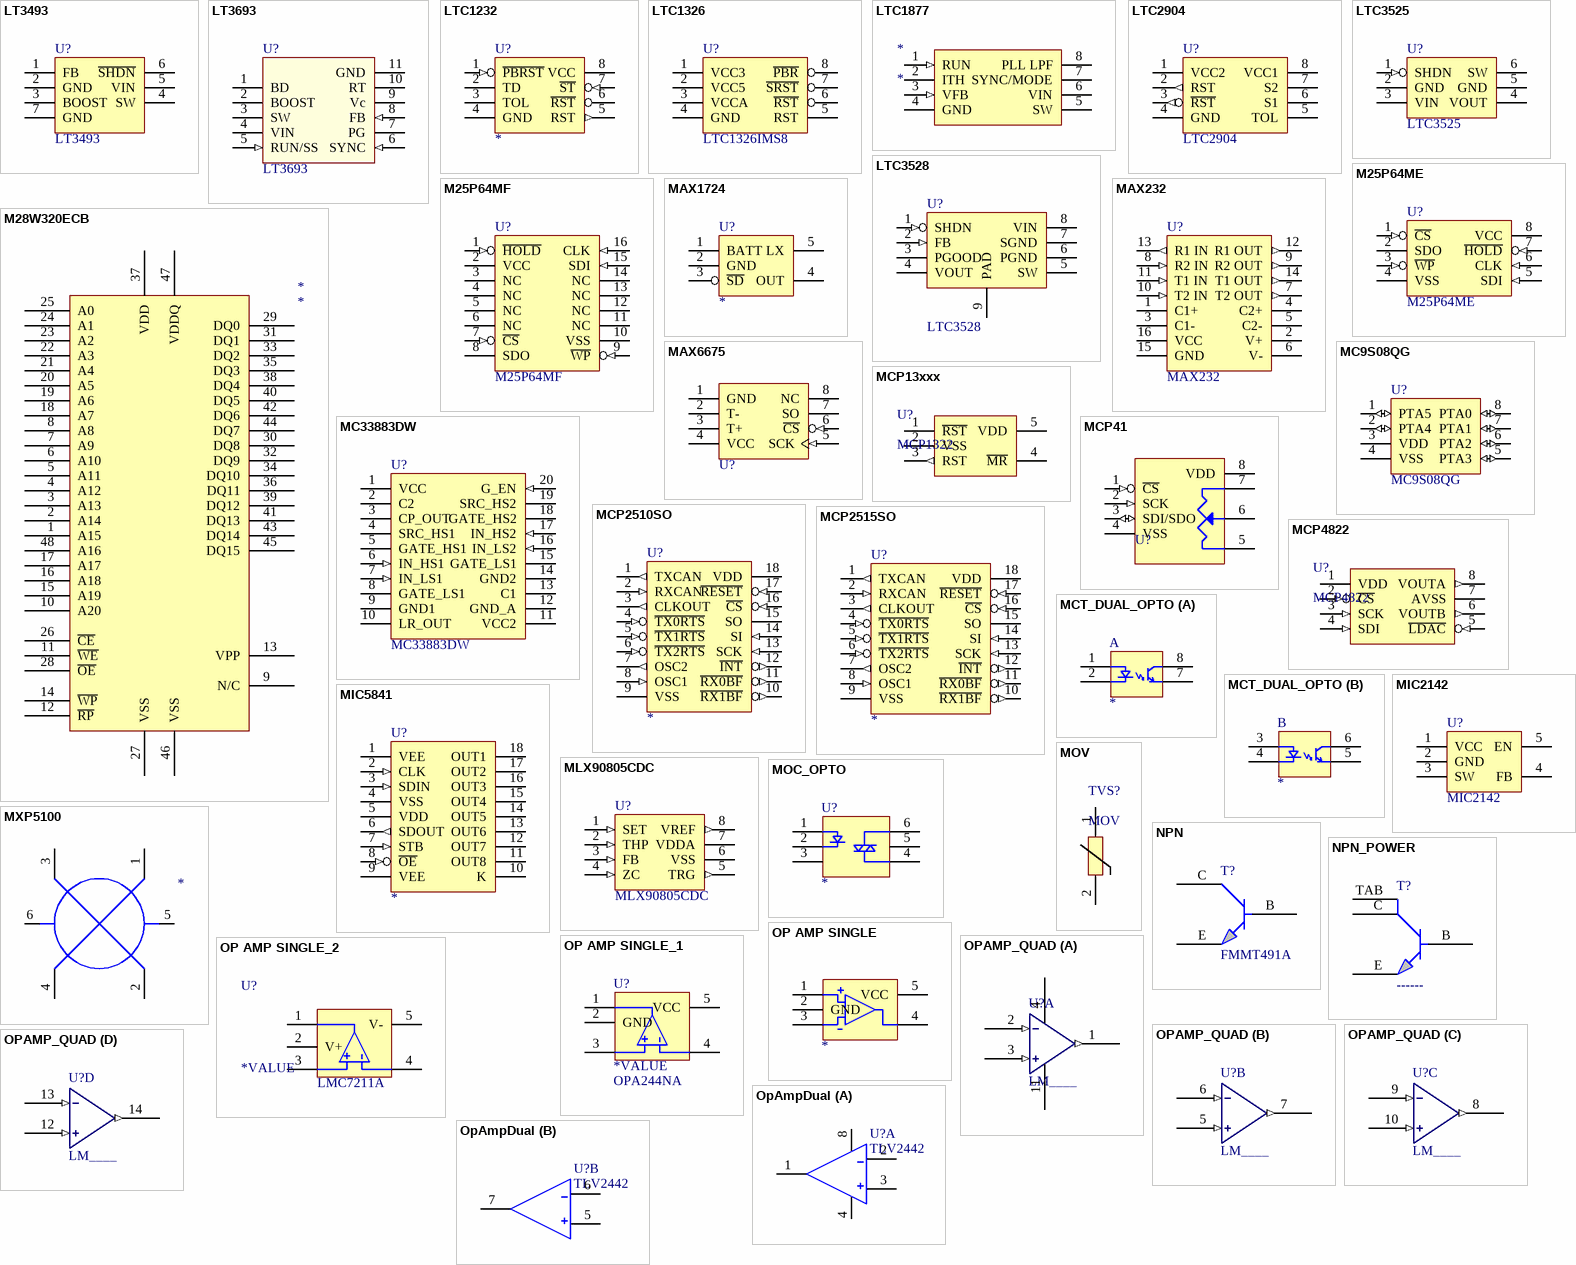
[diagram p4: symbols LT3493 to OpAmpDual]

## LT3493
designator U?
PARTNO: LT3493; VALUE: LT3493
footprint DCB6 (Footprint not found)
pins: 1 FB, 2 GND (power), 3 BOOST, 4 SW (oc), 5 VIN (power), 6 ~{SHDN}, 7 GND (power)

## LT3693
designator U?
PARTNO: LT3693; VALUE: LT3693
footprint DFN10_091607 (SMT)
pins: 1 BD, 2 BOOST, 3 SW, 4 VIN (power), 5 RUN/SS (in), 6 SYNC (in), 7 PG (oc), 8 FB (in), 9 Vc, 10 RT, 11 GND (power)

## LTC1232
designator U?
LTC1232
footprint SO8
pins: 1 ~{PBRST} (in), 2 TD, 3 TOL, 4 GND (power), 5 RST (out), 6 ~{RST} (oc), 7 ~{ST} (in), 8 VCC (power)

## LTC1326
designator U?, comment LTC1326IMS8
PARTNO: LTC1326IMS8; VALUE: LTC1326IMS8
pins: 1 VCC3 (power), 2 VCC5 (power), 3 VCCA (power), 4 GND (power), 5 RST (power), 6 ~{RST} (power), 7 ~{SRST} (power), 8 ~{PBR} (power)

## LTC1877
designator *
pins: 1 RUN (in), 2 ITH, 3 VFB (in), 4 GND (power), 5 SW (oc), 6 VIN (power), 7 SYNC/MODE, 8 PLL LPF

## LTC2904
designator U?
PARTNO: LTC2904; VALUE: LTC2904
footprint SOT23-6_030205 (SMT)
pins: 1 VCC2 (power), 2 RST (out), 3 ~{RST} (out), 4 GND (power), 5 TOL, 6 S1, 7 S2, 8 VCC1 (power)

## LTC3525
designator U?
PARTNO: LTC3525; VALUE: LTC3525
footprint SC70-6_093005 (SMT)
pins: 1 SHDN (in) "Shut Down", 2 GND (power) "Ground", 3 VIN (power) "Power In", 4 VOUT (power) "Power Out", 5 GND (power) "Ground", 6 SW (oc) "Switch Output"

## LTC3528
designator U?
PARTNO: LTC3528; VALUE: LTC3528
pins: 1 SHDN (in) "SHUTDOWN", 2 FB (in) "FEEDBACK", 3 PGOOD (oc) "POWERGOOD", 4 VOUT (power) "POWEROUT", 5 SW (oc) "SWITCH", 6 PGND (power) "POWERGND", 7 SGND (power) "SIGNALGND", 8 VIN (power) "SUPPLY", 9 PAD (power) "POWER PAD"

## M25P64ME
designator U?
PARTNO: M25P64ME; VALUE: M25P64ME
footprint SO8ME (Footprint not found)
pins: 1 ~{CS} (in), 2 SDO (hiz), 3 ~{WP} (in), 4 VSS (power), 5 SDI (in), 6 CLK (in), 7 ~{HOLD} (in), 8 VCC (power)

## M25P64MF
designator U?
PARTNO: M25P64MF; VALUE: M25P64MF
footprint SO16MF (Footprint not found)
pins: 1 ~{HOLD} (in), 2 VCC (power), 3 NC, 4 NC, 5 NC, 6 NC, 7 ~{CS} (in), 8 SDO (hiz), 9 ~{WP} (in), 10 VSS (power), 11 NC (power), 12 NC (power), 13 NC (power), 14 NC (power), 15 SDI (in), 16 CLK (in)

## M28W320ECB
designator *
pins: 1 A15, 2 A14, 3 A13, 4 A12, 5 A11, 6 A10, 7 A9, 8 A8, 9 N/C, 10 A20, 11 ~{WE}, 12 ~{RP}, 13 VPP, 14 ~{WP}, 15 A19, 16 A18, 17 A17, 18 A7, 19 A6, 20 A5, 21 A4, 22 A3, 23 A2, 24 A1, 25 A0, 26 ~{CE}, 27 VSS, 28 ~{OE}, 29 DQ0, 30 DQ8, 31 DQ1, 32 DQ9, 33 DQ2, 34 DQ10, 35 DQ3, 36 DQ11, 37 VDD, 38 DQ4, 39 DQ12, 40 DQ5, 41 DQ13, 42 DQ6, 43 DQ14, 44 DQ7, 45 DQ15, 46 VSS, 47 VDDQ, 48 A16

## MAX232
designator U?
PARTNO: CHP-NEW____; VALUE: MAX232
pins: 1 C1+, 2 V+, 3 C1-, 4 C2+, 5 C2-, 6 V-, 7 T2 OUT (out), 8 R2 IN (in), 9 R2 OUT (out), 10 T2 IN (in), 11 T1 IN (in), 12 R1 OUT (out), 13 R1 IN (out), 14 T1 OUT (out), 15 GND (power), 16 VCC (power)

## MAX1724
designator U?
footprint SOT23-5
pins: 1 BATT (oc), 2 GND (power), 3 ~{SD}, 4 OUT, 5 LX (power)

## MAX6675
designator U?  (value not drawn)
MAX6675
footprint SO8
pins: 1 GND (power), 2 T-, 3 T+, 4 VCC (power), 5 SCK (in), 6 ~{CS} (in), 7 SO (hiz), 8 NC

## MC9S08QG
designator U?
PARTNO: CHP-MC9S08QG; VALUE: MC9S08QG
footprint DIP 8_012705 (TH)
pins: 1 PTA5 (io), 2 PTA4 (io), 3 VDD (power), 4 VSS (power), 5 PTA3 (io), 6 PTA2 (io), 7 PTA1 (io), 8 PTA0 (io)

## MC33883DW
designator U?
PARTNO: MC33883DW; VALUE: MC33883DW
footprint SO20 WIDE_030205 (SMT)
pins: 1 VCC (power) "HighPowerSupply", 2 C2 "Charge Pump Cap", 3 CP_OUT (power) "Charge Pump Output", 4 SRC_HS1 "Highside1 Source", 5 GATE_HS1 "Highside1 Gate", 6 IN_HS1 (in) "Highside1 Input", 7 IN_LS1 (in) "Lowside1 Input", 8 GATE_LS1 "Lowside1 Gate", 9 GND1 (power) "CKT1 GND", 10 LR_OUT (power) "Linear Reg Output", 11 VCC2 (power) "Internal VCC", 12 GND_A (power) "Analog GND", 13 C1 "Charge Pump Cap", 14 GND2 (power) "CKT2 GND", 15 GATE_LS1 "Lowside1 Gate", 16 IN_LS2 (in) "Lowside1 Input", 17 IN_HS2 (in) "Highside2 Input", 18 GATE_HS2 "Highside2 Gate", 19 SRC_HS2 "Highside2 Source", 20 G_EN (in) "Enable"

## MCP13xxx
designator U?, comment MCP1322
PARTNO: MCP1322T-29LE/OT; PARTNO_ALT1: MIC2775-29YMS; MAN: Microchip; Micrel: MAN_ALT1; DK: MCP1322T-29LE/OTCT-ND; VALUE: MCP1322
footprint SOT25_030205 (SMT)
pins: 1 ~{RST} (oc) "RSTn out active low", 2 VSS (power) "GND", 3 RST (out) "RST out active high", 4 ~{MR} "Manual Reset", 5 VDD (power) "Power supply"

## MCP41
designator U?, comment MCP4152-502  (value not drawn)
Programmable POT; PARTNO: MCP4152-502E/SN; MAN: Microchip; DK: MCP4152-502E/SN-ND; VALUE: MCP4152-502
footprint SO8_030205 (SMT)
pins: 1 ~{CS} (in), 2 SCK (in), 3 SDI/SDO (io), 4 VSS (power), 5 P0A, 6 P0W, 7 P0B (hiz), 8 VDD (power)

## MCP2510SO
designator U?
footprint SO18
pins: 1 TXCAN (out), 2 RXCAN (in), 3 CLKOUT (out), 4 ~{TX0RTS} (in), 5 ~{TX1RTS} (in), 6 ~{TX2RTS} (in), 7 OSC2 (out), 8 OSC1 (in), 9 VSS (power), 10 ~{RX1BF} (out), 11 ~{RX0BF} (out), 12 ~{INT} (out), 13 SCK (in), 14 SI (in), 15 SO (oc), 16 ~{CS} (in), 17 ~{RESET} (in), 18 VDD (power)

## MCP2515SO
designator U?
MCP2515SO
footprint SO18
pins: 1 TXCAN (out), 2 RXCAN (in), 3 CLKOUT (out), 4 ~{TX0RTS} (in), 5 ~{TX1RTS} (in), 6 ~{TX2RTS} (in), 7 OSC2 (out), 8 OSC1 (in), 9 VSS (power), 10 ~{RX1BF} (out), 11 ~{RX0BF} (out), 12 ~{INT} (out), 13 SCK (in), 14 SI (in), 15 SO (oc), 16 ~{CS} (in), 17 ~{RESET} (in), 18 VDD (power)

## MCP4822
designator U?
Dual DAC; PARTNO: MCP4822-E/SN; MAN: Microchip; VALUE: MCP4822; DK: MCP4822-E/SN-ND
footprint SO8_030205 (SMT)
pins: 1 VDD (power), 2 ~{CS} (in), 3 SCK (in), 4 SDI (in), 5 ~{LDAC} (in), 6 VOUTB (out), 7 AVSS (power), 8 VOUTA (out)

## MCT_DUAL_OPTO
designator ?
part A pins: 1, 2, 7, 8
part B pins: 3, 4, 5, 6

## MIC2142
designator U?
SMT; PARTNO: MIC2142BM5; VALUE: MIC2142
footprint SOT23-5
pins: 1 VCC (power), 2 GND (power), 3 SW (oc), 4 FB, 5 EN

## MIC5841
designator U?
footprint SO18W
pins: 1 VEE (power), 2 CLK (in), 3 SDIN (in), 4 VSS (power), 5 VDD (power), 6 SDOUT (out), 7 STB (in), 8 ~{OE} (in), 9 VEE (power), 10 K, 11 OUT8 (oc), 12 OUT7 (oc), 13 OUT6 (oc), 14 OUT5 (oc), 15 OUT4 (oc), 16 OUT3 (oc), 17 OUT2 (oc), 18 OUT1 (oc)

## MLX90805CDC
designator U?
PARTNO: MLX90805CDC; VALUE: MLX90805CDC
footprint SO8 (Footprint not found)
pins: 1 SET (in), 2 THP (in), 3 FB (in), 4 ZC (in), 5 TRG (out), 6 VSS (power), 7 VDDA (power), 8 VREF (out)

## MOC_OPTO
designator U?
VALUE: MOC3023; PARTNO: MOC3023
footprint SODIP6 (Footprint not found)
pins: 1, 2, 3, 4, 5, 6

## MOV
designator TVS?
PARTNO: ????; VALUE: MOV; MAN: ????; DK: ????
footprint CAP_20mmx7.3mm_CERAMIC_DISC_012109 (TH)
pins: 1, 2

## MXP5100
designator ?
pins: 1, 2, 3, 4, 5, 6

## NPN
designator T?  value FMMT491A  (hidden comment: NPN)
pins: B, C, E

## NPN_POWER
designator T?, comment value ------  (hidden comment: NPN)
pins: B, C, E, TAB

## OP AMP SINGLE
designator ?
pins: 1, 2 GND (power), 3, 4, 5 VCC (power)

## OP AMP SINGLE_1
designator U?, comment *VALUE  value OPA244NA
PART NO: NEW
footprint SOT23-5
pins: 1, 2 GND (power), 3, 4, 5 VCC (power)

## OP AMP SINGLE_2
designator U?, comment *VALUE  value LMC7211A
PART NO: NEW
footprint SOT25_030205 (SMT)
pins: 1, 2 V+ (power), 3, 4, 5 V- (power)

## OPAMP_QUAD
designator U?, comment LM____
PARTNO: LM____; VALUE: LM____
footprint SO14_012105 (SMT)
part A pins: 1 OA (out), 2 -A (in), 3 +A (in), 4 VCC (power), 11 GND (power)
part B pins: 5 +B (in), 6 -B (in), 7 OB (out)
part C pins: 8 OC (out), 9 -C (in), 10 +C (in)
part D pins: 12 +D (in), 13 -D (in), 14 OD (out)

## OpAmpDual
designator U?, comment TLV2442
MAN: TI; VALUE: TLV2442; PARTNO: TLV2442; DK: ????
footprint SO8_030205 (SMT)
part A pins: 1 OUT1, 2 IN1-, 3 IN1+, 4 GND (power), 8 V+ (power)
part B pins: 5 IN2+, 6 IN2-, 7 OUT2

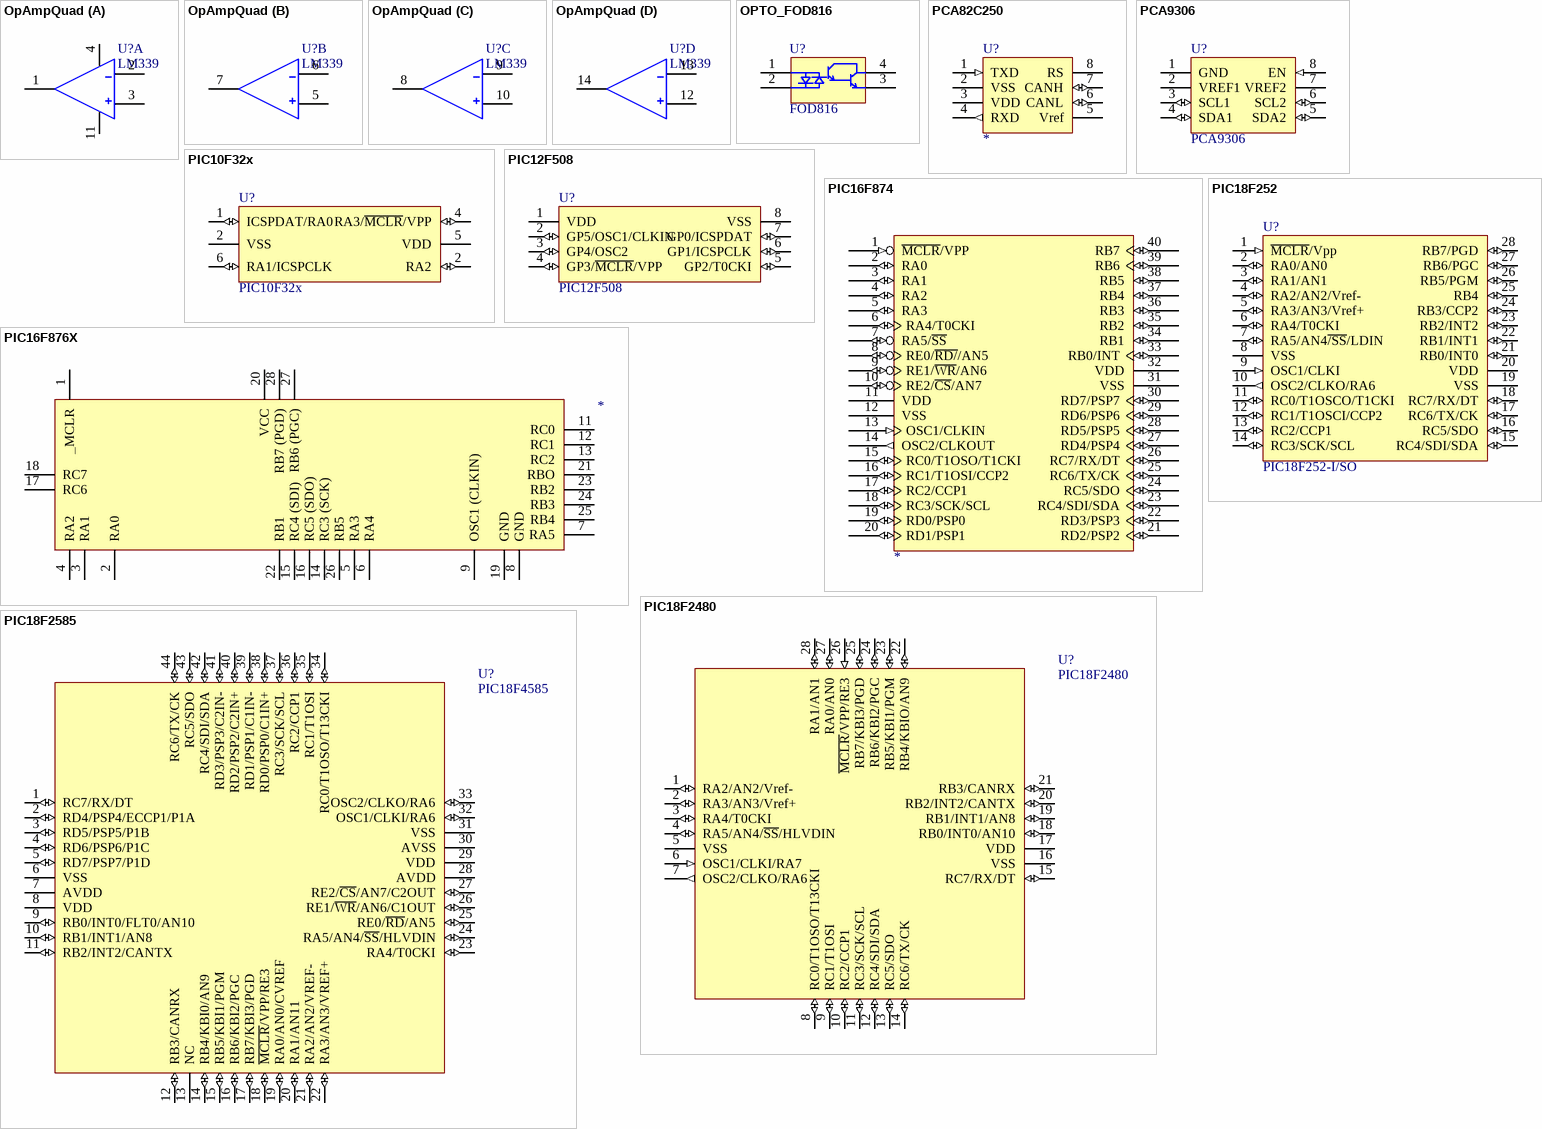
[diagram p5: symbols OpAmpQuad to PIC18F2585]

## OpAmpQuad
designator U?, comment LM339
PARTNO: CHP-; MAN: ????; VALUE: LM339; DK: ????
footprint SO14_012105 (SMT)
part A pins: 1 OUT1, 2 IN1-, 3 IN1+, 4 V+ (power), 11 GND (power)
part B pins: 5 IN2+, 6 IN2-, 7 OUT2
part C pins: 8 OUT3, 9 IN3-, 10 IN3+
part D pins: 12 IN4+, 13 IN4-, 14 OUT4

## OPTO_FOD816
designator U?, comment FOD816
PARTNO: FOD816; VALUE: FOD816
footprint 4PIN_SMT_DIP_033008 (SMT)
pins: 1, 2, 3, 4

## PCA82C250
designator U?
footprint SO8
pins: 1 TXD (in), 2 VSS (power), 3 VDD (power), 4 RXD (out), 5 Vref (oc), 6 CANL (io), 7 CANH (io), 8 RS

## PCA9306
designator U?
I2C Level Translator; PARTNO: PCA9306; VALUE: PCA9306
pins: 1 GND (power), 2 VREF1 (power), 3 SCL1 (io), 4 SDA1 (io), 5 SDA2 (io), 6 SCL2 (io), 7 VREF2 (power), 8 EN (in)

## PIC10F32x
designator U?
PARTNO: PIC10F32x; VALUE: PIC10F32x
footprint SOT23-6_030205 (SMT)
pins: 1 ICSPDAT/RA0 (io), 2 RA2 (io), 2 VSS (power), 4 RA3/~{MCLR}/VPP (io), 5 VDD (power), 6 RA1/ICSPCLK (io)

## PIC12F508
designator U?
PARTNO: CHP-PIC12F508; VALUE: PIC12F508
footprint SO8_030205 (SMT)
pins: 1 VDD (power), 2 GP5/OSC1/CLKIN (io), 3 GP4/OSC2 (io), 4 GP3/~{MCLR}/VPP (io), 5 GP2/T0CKI (io), 6 GP1/ICSPCLK (io), 7 GP0/ICSPDAT (io), 8 VSS (power)

## PIC16F874
designator ?
pins: 1 ~{MCLR}/VPP (in), 2 RA0 (io), 3 RA1 (io), 4 RA2 (io), 5 RA3 (io), 6 RA4/T0CKI (io), 7 RA5/~{SS} (io), 8 RE0/~{RD/}/AN5 (io), 9 RE1/~{WR}/AN6 (io), 10 RE2/~{CS}/AN7 (io), 11 VDD, 12 VSS, 13 OSC1/CLKIN (in), 14 OSC2/CLKOUT (out), 15 RC0/T1OSO/T1CKI (io), 16 RC1/T1OSI/CCP2 (io), 17 RC2/CCP1 (io), 18 RC3/SCK/SCL (io), 19 RD0/PSP0 (io), 20 RD1/PSP1 (io), 21 RD2/PSP2 (io), 22 RD3/PSP3 (io), 23 RC4/SDI/SDA (io), 24 RC5/SDO (io), 25 RC6/TX/CK (io), 26 RC7/RX/DT (io), 27 RD4/PSP4 (io), 28 RD5/PSP5 (io), 29 RD6/PSP6 (io), 30 RD7/PSP7 (io), 31 VSS, 32 VDD, 33 RB0/INT (io), 34 RB1 (io), 35 RB2 (io), 36 RB3 (io), 37 RB4 (io), 38 RB5 (io), 39 RB6 (io), 40 RB7 (io)

## PIC16F876X
designator ?
pins: 1 _MCLR, 2 RA0, 3 RA1, 4 RA2, 5 RA3, 6 RA4, 7 RA5, 8 GND, 9 OSC1 (CLKIN), 11 RC0, 12 RC1, 13 RC2, 14 RC3 (SCK), 15 RC4 (SDI), 16 RC5 (SDO), 17 RC6, 18 RC7, 19 GND, 20 VCC, 21 RBO, 22 RB1, 23 RB2, 24 RB3, 25 RB4, 26 RB5, 27 RB6 (PGC), 28 RB7 (PGD)

## PIC18F252
designator U?, comment PIC18F252-I/SO
PARTNO: CHP-****; VALUE: PIC18F252-I/SO
footprint SO28
pins: 1 ~{MCLR}/Vpp (in), 2 RA0/AN0 (io), 3 RA1/AN1 (io), 4 RA2/AN2/Vref- (io), 5 RA3/AN3/Vref+ (io), 6 RA4/T0CKI (io), 7 RA5/AN4~{/SS}/LDIN (io), 8 VSS (power), 9 OSC1/CLKI (in), 10 OSC2/CLKO/RA6 (out), 11 RC0/T1OSCO/T1CKI (io), 12 RC1/T1OSCI/CCP2 (io), 13 RC2/CCP1 (io), 14 RC3/SCK/SCL (io), 15 RC4/SDI/SDA (io), 16 RC5/SDO (io), 17 RC6/TX/CK (io), 18 RC7/RX/DT (io), 19 VSS (power), 20 VDD (power), 21 RB0/INT0 (io), 22 RB1/INT1 (io), 23 RB2/INT2 (io), 24 RB3/CCP2 (io), 25 RB4 (io), 26 RB5/PGM (io), 27 RB6/PGC (io), 28 RB7/PGD (io)

## PIC18F2480
designator U?
PARTNO: PIC18F1480; VALUE: PIC18F2480
footprint QFN28 (Footprint not found)
pins: 1 RA2/AN2/Vref- (io), 2 RA3/AN3/Vref+ (io), 3 RA4/T0CKI (io), 4 RA5/AN4/~{SS}/HLVDIN (io), 5 VSS (power), 6 OSC1/CLKI/RA7 (in), 7 OSC2/CLKO/RA6 (out), 8 RC0/T1OSO/T13CKI (io), 9 RC1/T1OSI (io), 10 RC2/CCP1 (io), 11 RC3/SCK/SCL (io), 12 RC4/SDI/SDA (io), 13 RC5/SDO (io), 14 RC6/TX/CK (io), 15 RC7/RX/DT (io), 16 VSS (power), 17 VDD (power), 18 RB0/INT0/AN10 (io), 19 RB1/INT1/AN8 (io), 20 RB2/INT2/CANTX (io), 21 RB3/CANRX (io), 22 RB4/KBIO/AN9 (io), 23 RB5/KBI1/PGM (io), 24 RB6/KBI2/PGC (io), 25 RB7/KBI3/PGD (io), 26 ~{MCLR}/VPP/RE3 (in), 27 RA0/AN0 (io), 28 RA1/AN1 (io)

## PIC18F2585
designator U?, comment PIC18F4585
VALUE: PIC18F4585; PARTNO: PIC18F4585
footprint QFN44 (Footprint not found)
pins: 1 RC7/RX/DT (io), 2 RD4/PSP4/ECCP1/P1A (io), 3 RD5/PSP5/P1B (io), 4 RD6/PSP6/P1C (io), 5 RD7/PSP7/P1D (io), 6 VSS (power), 7 AVDD (power), 8 VDD (power), 9 RB0/INT0/FLT0/AN10 (io), 10 RB1/INT1/AN8 (io), 11 RB2/INT2/CANTX (io), 12 RB3/CANRX (io), 13 NC, 14 RB4/KBI0/AN9 (io), 15 RB5/KBI1/PGM (io), 16 RB6/KBI2/PGC (io), 17 RB7/KBI3/PGD (io), 18 ~{MCLR}/VPP/RE3 (io), 19 RA0/AN0/CVREF (io), 20 RA1/AN11 (io), 21 RA2/AN2/VREF- (io), 22 RA3/AN3/VREF+ (io), 23 RA4/T0CKI (io), 24 RA5/AN4/~{SS}/HLVDIN (io), 25 RE0/~{RD}/AN5 (io), 26 RE1/~{WR}/AN6/C1OUT (io), 27 RE2/~{CS}/AN7/C2OUT (io), 28 AVDD (power), 29 VDD (power), 30 AVSS (power), 31 VSS (power), 32 OSC1/CLKI/RA6 (io), 33 OSC2/CLKO/RA6 (io), 34 RC0/T1OSO/T13CKI (io), 35 RC1/T1OSI (io), 36 RC2/CCP1 (io), 37 RC3/SCK/SCL (io), 38 RD0/PSP0/C1IN+ (io), 39 RD1/PSP1/C1IN- (io), 40 RD2/PSP2/C2IN+ (io), 41 RD3/PSP3/C2IN- (io), 42 RC4/SDI/SDA (io), 43 RC5/SDO (io), 44 RC6/TX/CK (io)

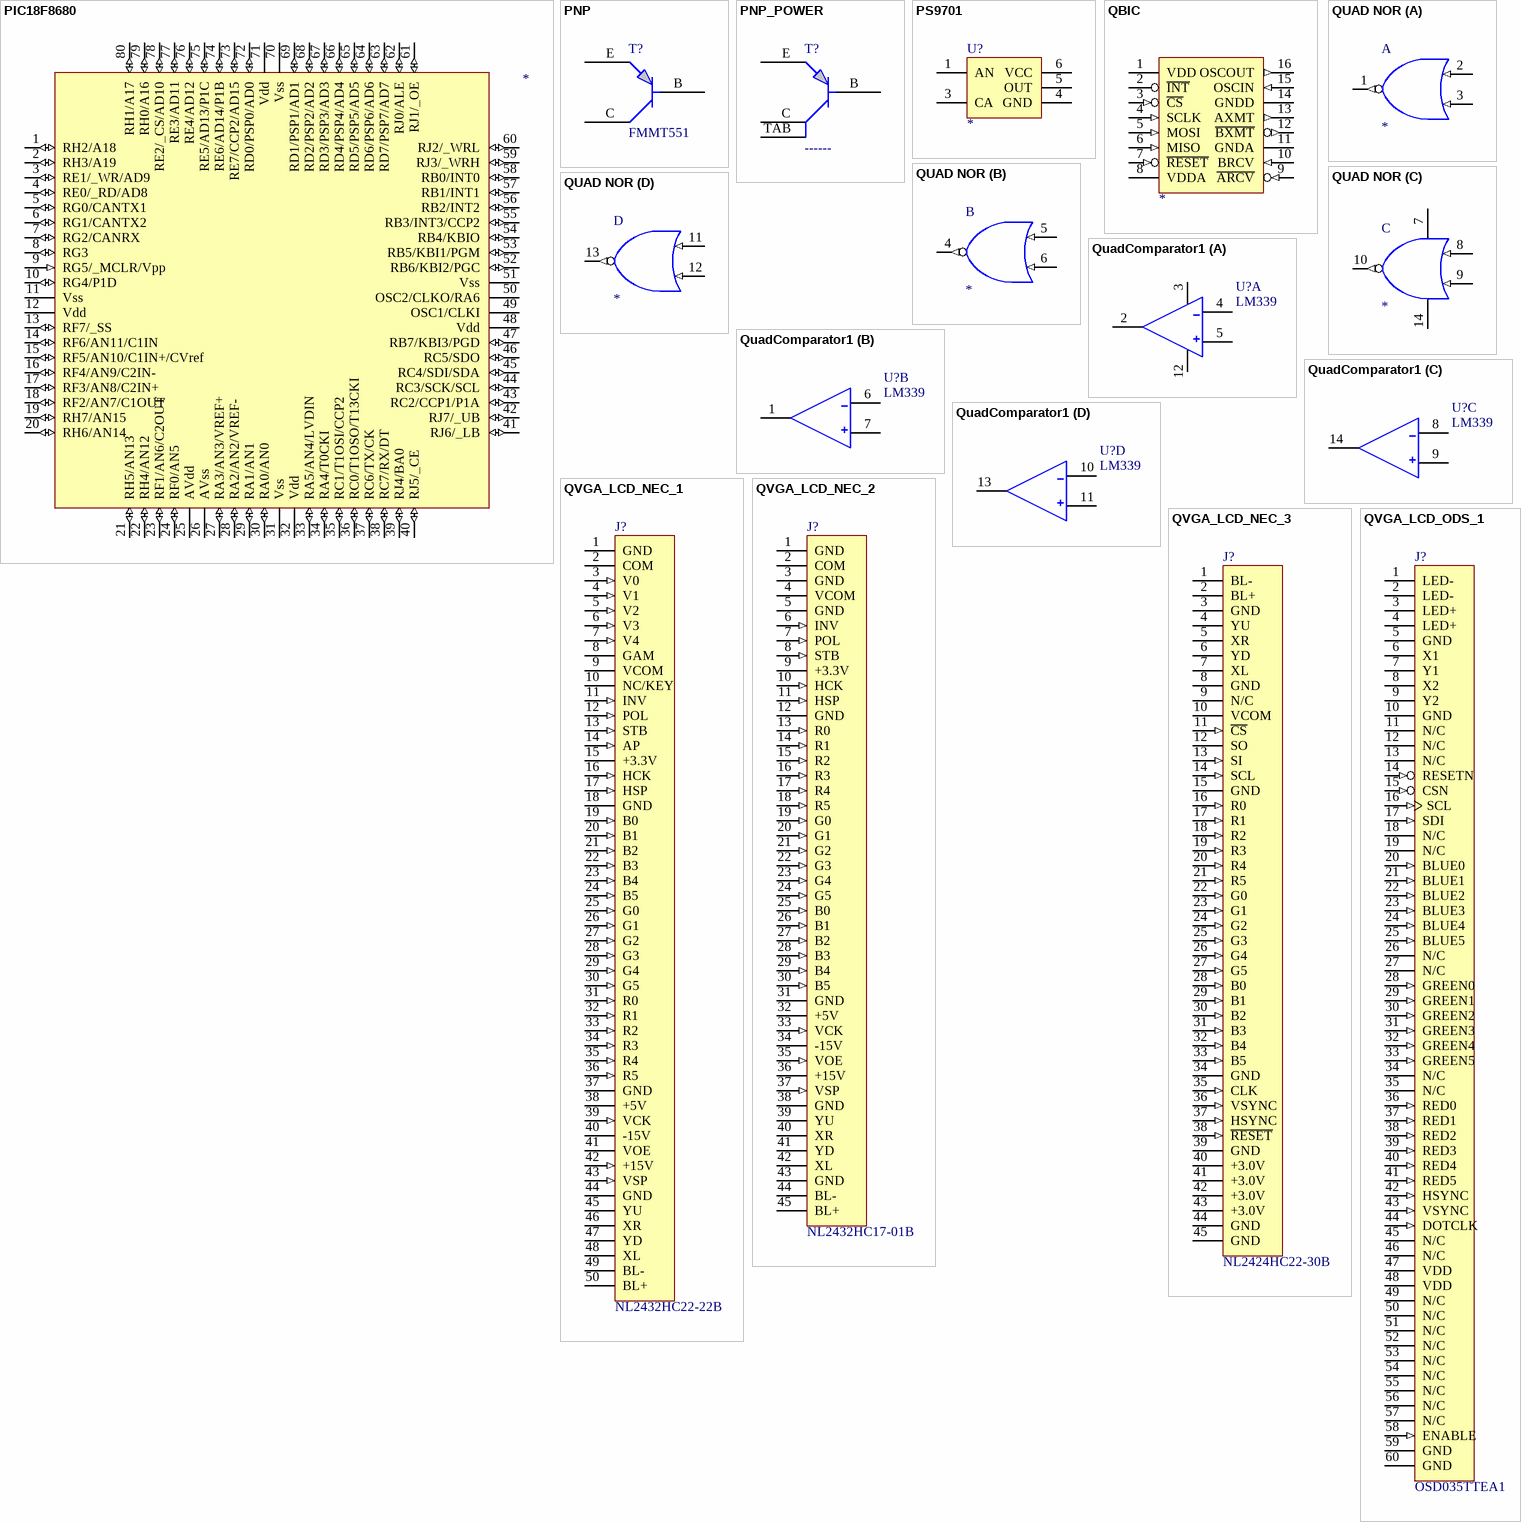
[diagram p6: symbols PIC18F8680 to QVGA_LCD_ODS_1]

## PIC18F8680
designator ?
pins: 1 RH2/A18 (io), 2 RH3/A19 (io), 3 RE1/_WR/AD9 (io), 4 RE0/_RD/AD8 (io), 5 RG0/CANTX1 (io), 6 RG1/CANTX2 (io), 7 RG2/CANRX (io), 8 RG3 (io), 9 RG5/_MCLR/Vpp (in), 10 RG4/P1D (io), 11 Vss (power), 12 Vdd (power), 13 RF7/_SS (io), 14 RF6/AN11/C1IN (io), 15 RF5/AN10/C1IN+/CVref (io), 16 RF4/AN9/C2IN- (io), 17 RF3/AN8/C2IN+ (io), 18 RF2/AN7/C1OUT (io), 19 RH7/AN15 (io), 20 RH6/AN14 (io), 21 RH5/AN13 (io), 22 RH4/AN12 (io), 23 RF1/AN6/C2OUT (io), 24 RF0/AN5 (io), 25 AVdd (power), 26 AVss (power), 27 RA3/AN3/VREF+ (io), 28 RA2/AN2/VREF- (io), 29 RA1/AN1 (io), 30 RA0/AN0 (io), 31 Vss (power), 32 Vdd (power), 33 RA5/AN4/LVDIN (io), 34 RA4/T0CKI (io), 35 RC1/T1OSI/CCP2 (io), 36 RC0/T1OSO/T13CKI (io), 37 RC6/TX/CK (io), 38 RC7/RX/DT (io), 39 RJ4/BA0 (io), 40 RJ5/_CE (io), 41 RJ6/_LB (io), 42 RJ7/_UB (io), 43 RC2/CCP1/P1A (io), 44 RC3/SCK/SCL (io), 45 RC4/SDI/SDA (io), 46 RC5/SDO (io), 47 RB7/KBI3/PGD (io), 48 Vdd (power), 49 OSC1/CLKI, 50 OSC2/CLKO/RA6, 51 Vss (power), 52 RB6/KBI2/PGC (io), 53 RB5/KBI1/PGM (io), 54 RB4/KBIO (io), 55 RB3/INT3/CCP2 (io), 56 RB2/INT2 (io), 57 RB1/INT1 (io), 58 RB0/INT0 (io), 59 RJ3/_WRH (io), 60 RJ2/_WRL (io), 61 RJ1/_OE (io), 62 RJ0/ALE (io), 63 RD7/PSP7/AD7 (io), 64 RD6/PSP6/AD6 (io), 65 RD5/PSP5/AD5 (io), 66 RD4/PSP4/AD4 (io), 67 RD3/PSP3/AD3 (io), 68 RD2/PSP2/AD2 (io), 69 RD1/PSP1/AD1 (io), 70 Vss (power), 71 Vdd (power), 72 RD0/PSP0/AD0 (io), 73 RE7/CCP2/AD15 (io), 74 RE6/AD14/P1B (io), 75 RE5/AD13/P1C (io), 76 RE4/AD12 (io), 77 RE3/AD11 (io), 78 RE2/_CS/AD10 (io), 79 RH0/A16 (io), 80 RH1/A17 (io)

## PNP
designator T?  value FMMT551  (hidden comment: PNP)
pins: B, C, E

## PNP_POWER
designator T?, comment value ------  (hidden comment: PNP)
pins: B, C, E, TAB

## PS9701
designator U?
High Speed Opto Isolator
footprint SOT23-5W
pins: 1 AN, 3 CA, 4 GND (power), 5 OUT (oc), 6 VCC (power)

## QBIC
designator ?
pins: 1 VDD (power), 2 ~{INT} (oc), 3 ~{CS} (in), 4 SCLK (in), 5 MOSI (in), 6 MISO (in), 7 ~{RESET} (in), 8 VDDA (power), 9 ~{ARCV} (in), 10 BRCV (in), 11 GNDA (power), 12 ~{BXMT} (out), 13 AXMT (out), 14 GNDD (power), 15 OSCIN (in), 16 OSCOUT (out)

## QUAD NOR
designator ?
part A pins: 1 (out), 2 (in), 3 (in)
part B pins: 4 (out), 5 (in), 6 (in)
part C pins: 7 (power), 8 (in), 9 (in), 10 (out), 14 (power)
part D pins: 11 (in), 12 (in), 13 (out)

## QuadComparator1
designator U?, comment LM339
PARTNO: CHP-; VALUE: LM339
footprint SO14_012105 (SMT)
part A pins: 2 OUT1, 3 V+ (power), 4 IN1-, 5 IN1+, 12 GND (power)
part B pins: 1 OUT2, 6 IN2-, 7 IN2+
part C pins: 8 IN3-, 9 IN3+, 14 OUT3
part D pins: 10 IN4-, 11 IN4+, 13 OUT4

## QVGA_LCD_NEC_1
designator J?, comment NL2432HC22-22B
PARTNO: NL2432HC22-22B; VALUE: NL2432HC22-22B
pins: 1 GND (power), 2 COM, 3 V0 (in), 4 V1 (in), 5 V2 (in), 6 V3 (in), 7 V4 (in), 8 GAM (power), 9 VCOM (power), 10 NC/KEY (power), 11 INV (in), 12 POL (in), 13 STB (in), 14 AP (in), 15 +3.3V (power), 16 HCK (in), 17 HSP (in), 18 GND (power), 19 B0 (in), 20 B1 (in), 21 B2 (in), 22 B3 (in), 23 B4 (in), 24 B5 (in), 25 G0 (in), 26 G1 (in), 27 G2 (in), 28 G3 (in), 29 G4 (in), 30 G5 (in), 31 R0 (in), 32 R1 (in), 33 R2 (in), 34 R3 (in), 35 R4 (in), 36 R5 (in), 37 GND (power), 38 +5V (power), 39 VCK (in), 40 -15V (power), 41 VOE (power), 42 +15V (in), 43 VSP (in), 44 GND (power), 45 YU, 46 XR, 47 YD, 48 XL, 49 BL- (power), 50 BL+ (power)

## QVGA_LCD_NEC_2
designator J?, comment NL2432HC17-01B
PARTNO: NL2432HC17-01B; VALUE: NL2432HC17-01B
pins: 1 GND (power), 2 COM, 3 GND (power), 4 VCOM, 5 GND (power), 6 INV (in), 7 POL (in), 8 STB (in), 9 +3.3V (power), 10 HCK (in), 11 HSP (in), 12 GND (power), 13 R0 (in), 14 R1 (in), 15 R2 (in), 16 R3 (in), 17 R4 (in), 18 R5 (in), 19 G0 (in), 20 G1 (in), 21 G2 (in), 22 G3 (in), 23 G4 (in), 24 G5 (in), 25 B0 (in), 26 B1 (in), 27 B2 (in), 28 B3 (in), 29 B4 (in), 30 B5 (in), 31 GND (power), 32 +5V (power), 33 VCK (in), 34 -15V (power), 35 VOE (in), 36 +15V (power), 37 VSP (in), 38 GND (power), 39 YU, 40 XR, 41 YD, 42 XL, 43 GND (power), 44 BL-, 45 BL+

## QVGA_LCD_NEC_3
designator J?, comment NL2424HC22-30B
PARTNO: NL2424HC22-30B; VALUE: NL2424HC22-30B
pins: 1 BL-, 2 BL+, 3 GND (power), 4 YU, 5 XR, 6 YD, 7 XL, 8 GND (power), 9 N/C, 10 VCOM, 11 ~{CS} (in), 12 SO (oc), 13 SI (in), 14 SCL (in), 15 GND (power), 16 R0 (in), 17 R1 (in), 18 R2 (in), 19 R3 (in), 20 R4 (in), 21 R5 (in), 22 G0 (in), 23 G1 (in), 24 G2 (in), 25 G3 (in), 26 G4 (in), 27 G5 (in), 28 B0 (in), 29 B1 (in), 30 B2 (in), 31 B3 (in), 32 B4 (in), 33 B5 (in), 34 GND (power), 35 CLK (in), 36 VSYNC (in), 37 HSYNC (in), 38 ~{RESET} (in), 39 GND (power), 40 +3.0V (power), 41 +3.0V, 42 +3.0V, 43 +3.0V (power), 44 GND (power), 45 GND (power)

## QVGA_LCD_ODS_1
designator J?, comment OSD035TTEA1
PARTNO: CON-FF0360SA1; VALUE: OSD035TTEA1; MANPARTNO: OSD035TTEA1
footprint FPC60_.5mm (Footprint not found)
pins: 1 LED- "LED Backlight-", 2 LED- "LED Backlight-", 3 LED+ "LED Backlight+", 4 LED+ "LED Backlight+", 5 GND (power) "I/O Ground", 6 X1 "Touch Panel X1", 7 Y1 "Touch Panel Y1", 8 X2 "Touch Panel X2", 9 Y2 "Touch Panel Y2", 10 GND (power) "I/O Ground", 11 N/C, 12 N/C, 13 N/C, 14 RESETN (in) "Display Reset", 15 CSN (in) "Chip Select", 16 SCL (in) "Serial Data Clock", 17 SDI (in) "Serial Data In", 18 N/C, 19 N/C, 20 BLUE0 (in) "Blue Data 0 (LSB)", 21 BLUE1 (in) "Blue Data 1", 22 BLUE2 (in) "Blue Data 2", 23 BLUE3 (in) "Blue Data 3", 24 BLUE4 (in) "Blue Data 4", 25 BLUE5 (in) "Blue Data 5 (MSB)", 26 N/C, 27 N/C, 28 GREEN0 (in) "Green Data 0 (LSB)", 29 GREEN1 (in) "Green Data 1", 30 GREEN2 (in) "Green Data 2", 31 GREEN3 (in) "Green Data 3", 32 GREEN4 (in) "Green Data 4", 33 GREEN5 (in) "Green Data 5 (MSB)", 34 N/C, 35 N/C, 36 RED0 (in) "Red Data 0 (LSB)", 37 RED1 (in) "Red Data 1", 38 RED2 (in) "Red Data 2", 39 RED3 (in) "Red Data 3", 40 RED4 (in) "Red Data 4", 41 RED5 (in) "Red Data 5 (MSB)", 42 HSYNC (in) "Horizontal Sync", 43 VSYNC (in) "Vertical Sync", 44 DOTCLK (in) "Dot Clock", 45 N/C, 46 N/C, 47 VDD (power) "+3.3V", 48 VDD (power) "+3.3V", 49 N/C, 50 N/C, 51 N/C, 52 N/C, 53 N/C, 54 N/C, 55 N/C, 56 N/C, 57 N/C, 58 ENABLE (in) "Data Enable", 59 GND (power) "I/O Ground", 60 GND (power) "I/O Ground"

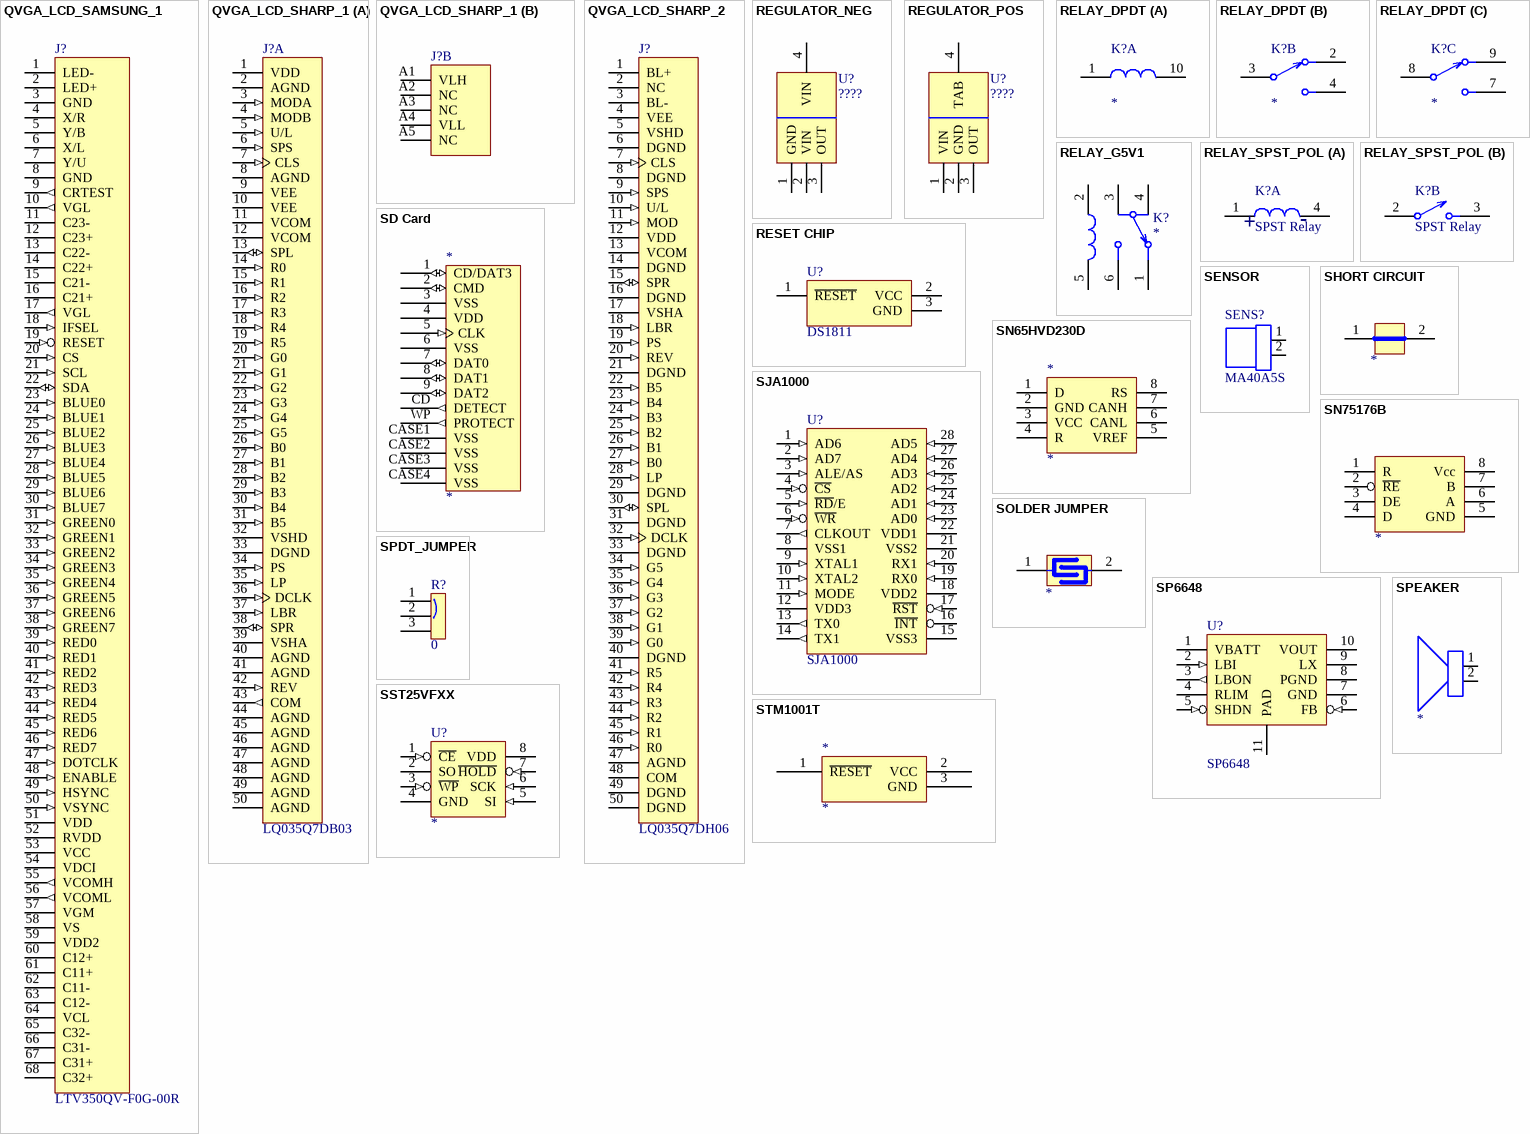
[diagram p7: symbols QVGA_LCD_SAMSUNG_1 to STM1001T]

## QVGA_LCD_SAMSUNG_1
designator J?, comment LTV350QV-F0G-00R
PARTNO: CON-LTV350QV-F0G-00R; VALUE: LTV350QV-F0G-00R; MANPARTNO: LTV350QV-F0G-00R
footprint FPC68_.5mm (Footprint not found)
pins: 1 LED- "LED Backlight-", 2 LED+ "LED Backlight+", 3 GND (power) "Ground", 4 X/R "Touch Panel X Right", 5 Y/B "Touch Panel Y Bottom", 6 X/L "Touch Panel X Left", 7 Y/U "Touch Panel Y Up", 8 GND (power) "Ground", 9 CRTEST (out) "VCOML Power Output", 10 VGL (out) "Gate off Voltage", 11 C23- "Carge Pump Cap", 12 C23+ "Carge Pump Cap", 13 C22- "Carge Pump Cap", 14 C22+ "Carge Pump Cap", 15 C21- "Carge Pump Cap", 16 C21+ "Carge Pump Cap", 17 VGL (out) "Gate on Voltage", 18 IFSEL (in) "Interface Select", 19 RESET (in) "Reset", 20 CS (in) "SPI Chip Select", 21 SCL (in) "SPI Clock", 22 SDA (io) "SPI Data", 23 BLUE0 (in) "Blue Data 0 (LSB)", 24 BLUE1 (in) "Blue Data 1", 25 BLUE2 (in) "Blue Data 2", 26 BLUE3 (in) "Blue Data 3", 27 BLUE4 (in) "Blue Data 4", 28 BLUE5 (in) "Blue Data 5", 29 BLUE6 (in) "Blue Data 6", 30 BLUE7 (in) "Blue Data 7 (MSB)", 31 GREEN0 (in) "Green Data 0 (LSB)", 32 GREEN1 (in) "Green Data 1", 33 GREEN2 (in) "Green Data 2", 34 GREEN3 (in) "Green Data 3", 35 GREEN4 (in) "Green Data 4", 36 GREEN5 (in) "Green Data 5", 37 GREEN6 (in) "Green Data 6", 38 GREEN7 (in) "Green Data 7 (MSB)", 39 RED0 (in) "Red Data 0 (LSB)", 40 RED1 (in) "Red Data 1", 41 RED2 (in) "Red Data 2", 42 RED3 (in) "Red Data 3", 43 RED4 (in) "Red Data 4", 44 RED5 (in) "Red Data 5", 45 RED6 (in) "Red Data 6", 46 RED7 (in) "Red Data 7(MSB)", 47 DOTCLK (in) "Dot Clock", 48 ENABLE (in) "Data Enable", 49 HSYNC (in) "Horizontal Sync", 50 VSYNC (in) "Vertical Sync", 51 VDD (power) "+3.3V", 52 RVDD (power) "+3.3V Out", 53 VCC (power) "Main Power", 54 VDCI (power) "Ref Output for DC/DC", 55 VCOMH (out) "VCOM High Level", 56 VCOML (out) "VCOM Low Level", 57 VGM (power) "Grey Scale Ref Voltage", 58 VS (power) "Ref Output for Source Driver", 59 VDD2 (power) "Analog Ckt Power Out", 60 C12+ "Charge Pump Cap", 61 C11+ "Charge Pump Cap", 62 C11- "Charge Pump Cap", 63 C12- "Charge Pump Cap", 64 VCL (power) "Negative Power Out", 65 C32- "Charge Pump Cap", 66 C31- "Charge Pump Cap", 67 C31+ "Charge Pump Cap", 68 C32+ "Charge Pump Cap"

## QVGA_LCD_SHARP_1
designator J?, comment LQ035Q7DB03
PARTNO: DIS-xxxx; VALUE: LQ035Q7DB03
footprint QVGA_LQ035_03 (Footprint not found)
part A pins: 1 VDD (power), 2 AGND (power), 3 MODA (in), 4 MODB (in), 5 U/L (in), 6 SPS (in), 7 CLS (in), 8 AGND (power), 9 VEE (power), 10 VEE (power), 11 VCOM (power), 12 VCOM (power), 13 SPL (io), 14 R0 (in), 15 R1 (in), 16 R2 (in), 17 R3 (in), 18 R4 (in), 19 R5 (in), 20 G0 (in), 21 G1 (in), 22 G2 (in), 23 G3 (in), 24 G4 (in), 25 G5 (in), 26 B0 (in), 27 B1 (in), 28 B2 (in), 29 B3 (in), 30 B4 (in), 31 B5 (in), 32 VSHD (power), 33 DGND (power), 34 PS (in), 35 LP (in), 36 DCLK (in), 37 LBR (in), 38 SPR (io), 39 VSHA (power), 40 AGND (power), 41 AGND (power), 42 REV (in), 43 COM (out), 44 AGND (power), 45 AGND (power), 46 AGND (power), 47 AGND (power), 48 AGND (power), 49 AGND (power), 50 AGND (power)
part B pins: A1 VLH, A2 NC, A3 NC, A4 VLL, A5 NC

## QVGA_LCD_SHARP_2
designator J?, comment LQ035Q7DH06
MAN_PART_NUMBER: LQ035Q7DH06; PARTNO: LQ035Q7DH06; VALUE: LQ035Q7DH06
footprint CONN FH12-50S-0.5SH (SM FP)
pins: 1 BL+ "LED Backlight+", 2 NC, 3 BL- "LED Backlight-", 4 VEE (power), 5 VSHD (power), 6 DGND (power), 7 CLS (in), 8 DGND (power), 9 SPS (in), 10 U/L (in), 11 MOD (in), 12 VDD (power), 13 VCOM, 14 DGND (power), 15 SPR (io), 16 DGND (power), 17 VSHA (power), 18 LBR (in), 19 PS (in), 20 REV (in), 21 DGND (power), 22 B5 (in), 23 B4 (in), 24 B3 (in), 25 B2 (in), 26 B1 (in), 27 B0 (in), 28 LP (in), 29 DGND (power), 30 SPL (io), 31 DGND (power), 32 DCLK (in), 33 DGND (power), 34 G5 (in), 35 G4 (in), 36 G3 (in), 37 G2 (in), 38 G1 (in), 39 G0 (in), 40 DGND (power), 41 R5 (in), 42 R4 (in), 43 R3 (in), 44 R2 (in), 45 R1 (in), 46 R0 (in), 47 AGND (power), 48 COM (oc), 49 DGND (power), 50 DGND (power)

## REGULATOR_NEG
designator U?, comment ????
DK: ????; PARTNO: ????; VALUE: ????; MAN: ????
footprint TO263 REGULATOR_070808 (SMT)
pins: 1 GND (power), 2 VIN, 3 OUT, 4 VIN

## REGULATOR_POS
designator U?, comment ????
DK: ????; PARTNO: ????; VALUE: ????; MAN: ????
footprint TO263 REGULATOR_070808 (SMT)
pins: 1 VIN (power), 2 GND, 3 OUT, 4 TAB

## RELAY_DPDT
designator K?
footprint GS5V-1 RELAY
part A pins: 1 COILA, 10 COILB
part B pins: 2 NC, 3 COMB, 4 NO
part C pins: 7 NO, 8 COMB, 9 NC

## RELAY_G5V1
designator K?
footprint GS5V-1 RELAY
pins: 1 NC, 2 COILA, 3 COMA, 4 COMB, 5 COILB, 6 NO

## RELAY_SPST_POL
designator K?, comment SPST Relay
VALUE: SPST Relay; PARTNO: SPST Relay
footprint DSP_SPST RELAY (Footprint not found)
part A pins: 1 -, 4 +
part B pins: 2 COM, 3 NO

## RESET CHIP
designator U?, comment DS1811
PARTNO: CHP-; VALUE: DS1811
pins: 1 ~{RESET} (oc), 2 VCC (power), 3 GND (power)

## SD Card
designator *
pins: 1 CD/DAT3 (io), 2 CMD (io), 3 VSS (power), 4 VDD (power), 5 CLK (in), 6 VSS (power), 7 DAT0 (io), 8 DAT1 (io), 9 DAT2 (io), CASE1 VSS (power), CASE2 VSS (power), CASE3 VSS (power), CASE4 VSS (power), CD DETECT (out), WP PROTECT (out)

## SENSOR
designator SENS?, comment MA40A5S
PARTNO: *; VALUE: MA40A5S
footprint CERAMIC_TRANSDUCER_010101 (Footprint not found)
pins: 1, 2

## SHORT CIRCUIT
designator ?
pins: 1, 2

## SJA1000
designator U?
PARTNO: CHP-; VALUE: SJA1000
footprint SO28
pins: 1 AD6 (in), 2 AD7 (in), 3 ALE/AS (in), 4 ~{CS} (in), 5 ~{RD}/E (in), 6 ~{WR} (in), 7 CLKOUT (out), 8 VSS1 (power), 9 XTAL1 (in), 10 XTAL2 (in), 11 MODE (in), 12 VDD3 (power), 13 TX0 (out), 14 TX1 (out), 15 VSS3 (power), 16 ~{INT} (oc), 17 ~{RST} (in), 18 VDD2 (power), 19 RX0 (in), 20 RX1 (in), 21 VSS2 (power), 22 VDD1 (power), 23 AD0 (in), 24 AD1 (in), 25 AD2 (in), 26 AD3 (in), 27 AD4 (in), 28 AD5 (in)

## SN65HVD230D
designator *
pins: 1 D, 2 GND, 3 VCC, 4 R, 5 VREF, 6 CANL, 7 CANH, 8 RS

## SN75176B
designator ?
pins: 1 R (hiz), 2 ~{RE}, 3 DE, 4 D, 5 GND, 6 A, 7 B, 8 Vcc

## SOLDER JUMPER
designator ?
pins: 1, 2

## SP6648
designator U?
PARTNO: SP6648; VALUE: SP6648
pins: 1 VBATT (power) "POWER IN", 2 LBI (in) "LOWBATTIN", 3 LBON (out) "LOWBATTOUT", 4 RLIM "CURRENT LIMIT SET", 5 SHDN (in) "SHUT DOWN", 6 FB (in) "FEEDBACK", 7 GND (power) "GROUND", 8 PGND (power) "POWER GND", 9 LX (oc) "SWITCH", 10 VOUT (power) "OUTPUT", 11 PAD (power) "GND"

## SPDT_JUMPER
designator R?, comment value 0  (hidden comment: JUMPER)
pins: 1, 2, 3

## SPEAKER
designator ?
pins: 1, 2

## SST25VFXX
designator U?
Serial FLASH Memory
footprint SO8
footprint WSON8
pins: 1 ~{CE} (in), 2 SO (oc), 3 ~{WP} (in), 4 GND (power), 5 SI (in), 6 SCK (in), 7 ~{HOLD} (in), 8 VDD (power)

## STM1001T
designator *
pins: 1 ~{RESET}, 2 VCC, 3 GND

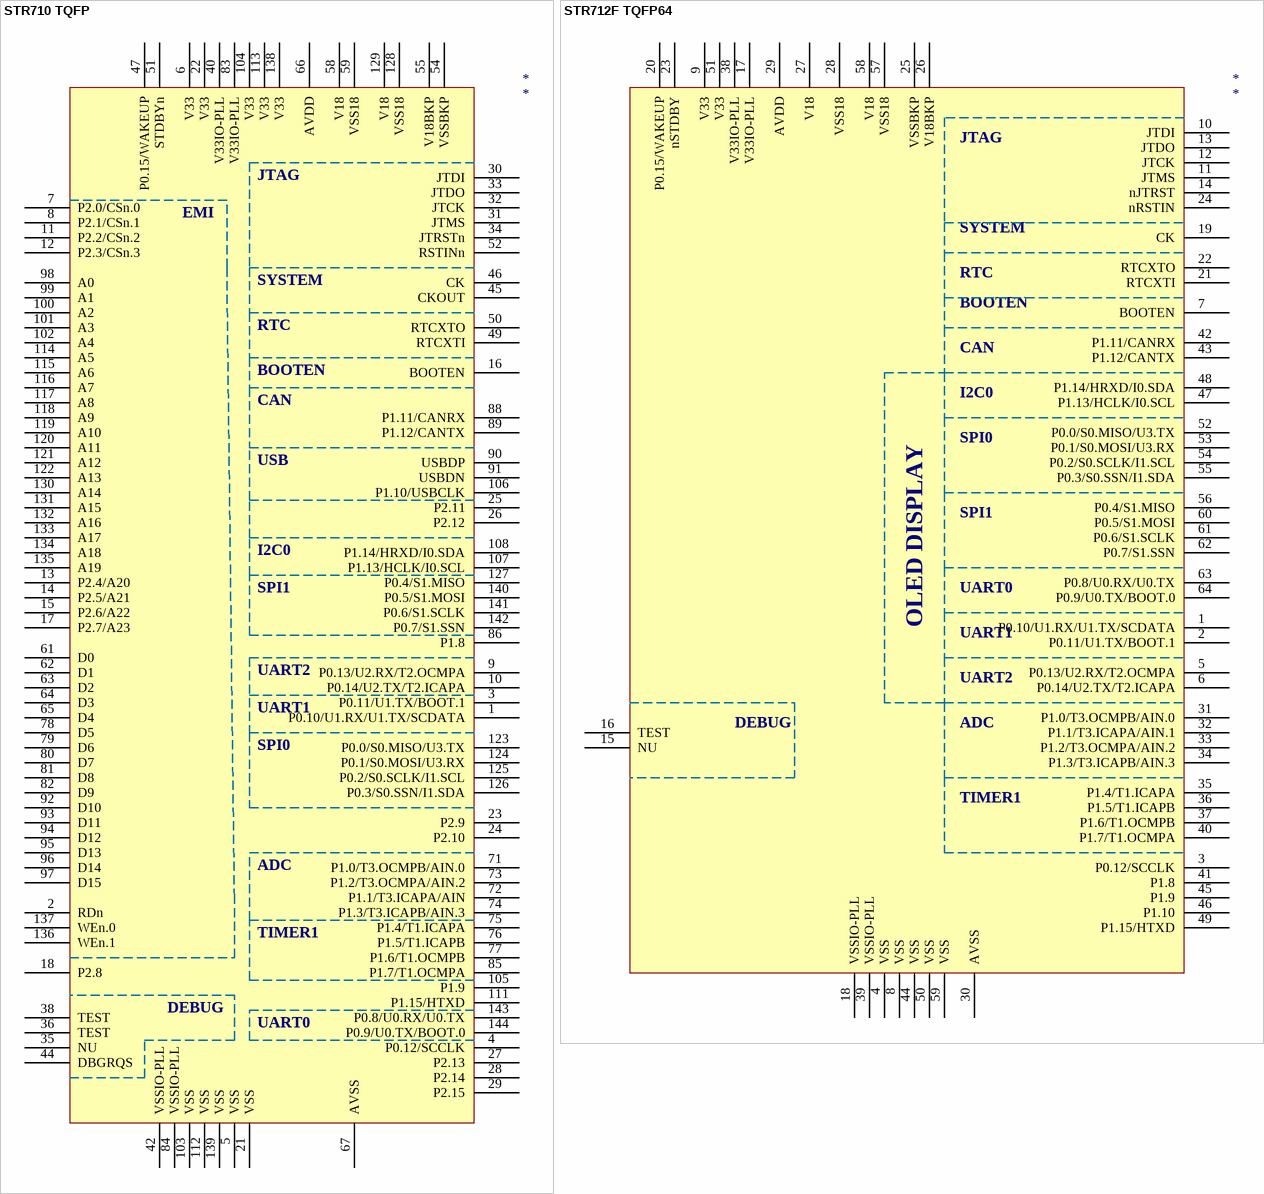
[diagram p8: symbols STR710 TQFP to STR712F TQFP64]

## STR710 TQFP
designator *
pins: 1 P0.10/U1.RX/U1.TX/SCDATA, 2 RDn, 3 P0.11/U1.TX/BOOT.1, 4 P0.12/SCCLK, 5 VSS, 6 V33, 7 P2.0/CSn.0, 8 P2.1/CSn.1, 9 P0.13/U2.RX/T2.OCMPA, 10 P0.14/U2.TX/T2.ICAPA, 11 P2.2/CSn.2, 12 P2.3/CSn.3, 13 P2.4/A20, 14 P2.5/A21, 15 P2.6/A22, 16 BOOTEN, 17 P2.7/A23, 18 P2.8, 21 VSS, 22 V33, 23 P2.9, 24 P2.10, 25 P2.11, 26 P2.12, 27 P2.13, 28 P2.14, 29 P2.15, 30 JTDI, 31 JTMS, 32 JTCK, 33 JTDO, 34 JTRSTn, 35 NU, 36 TEST, 38 TEST, 40 V33IO-PLL, 42 VSSIO-PLL, 44 DBGRQS, 45 CKOUT, 46 CK, 47 P0.15/WAKEUP, 49 RTCXTI, 50 RTCXTO, 51 STDBYn, 52 RSTINn, 54 VSSBKP, 55 V18BKP, 58 V18, 59 VSS18, 61 D0, 62 D1, 63 D2, 64 D3, 65 D4, 66 AVDD, 67 AVSS, 71 P1.0/T3.OCMPB/AIN.0, 72 P1.1/T3.ICAPA/AIN, 73 P1.2/T3.OCMPA/AIN.2, 74 P1.3/T3.ICAPB/AIN.3, 75 P1.4/T1.ICAPA, 76 P1.5/T1.ICAPB, 77 P1.6/T1.OCMPB, 78 D5, 79 D6, 80 D7, 81 D8, 82 D9, 83 V33IO-PLL, 84 VSSIO-PLL, 85 P1.7/T1.OCMPA, 86 P1.8, 88 P1.11/CANRX, 89 P1.12/CANTX, 90 USBDP, 91 USBDN, 92 D10, 93 D11, 94 D12, 95 D13, 96 D14, 97 D15, 98 A0, 99 A1, 100 A2, 101 A3, 102 A4, 103 VSS, 104 V33, 105 P1.9, 106 P1.10/USBCLK, 107 P1.13/HCLK/I0.SCL, 108 P1.14/HRXD/I0.SDA, 111 P1.15/HTXD, 112 VSS, 113 V33, 114 A5, 115 A6, 116 A7, 117 A8, 118 A9, 119 A10, 120 A11, 121 A12, 122 A13, 123 P0.0/S0.MISO/U3.TX, 124 P0.1/S0.MOSI/U3.RX, 125 P0.2/S0.SCLK/I1.SCL, 126 P0.3/S0.SSN/I1.SDA, 127 P0.4/S1.MISO, 128 VSS18, 129 V18, 130 A14, 131 A15, 132 A16, 133 A17, 134 A18, 135 A19, 136 WEn.1, 137 WEn.0, 138 V33, 139 VSS, 140 P0.5/S1.MOSI, 141 P0.6/S1.SCLK, 142 P0.7/S1.SSN, 143 P0.8/U0.RX/U0.TX, 144 P0.9/U0.TX/BOOT.0
text: JTAG; EMI; SYSTEM; RTC; CAN; USB; I2C0; SPI1; UART2; UART1; SPI0; ADC; TIMER1; DEBUG; UART0